# Altium schematic symbol library AltiumDesignerLibraries.SCHLIB: 396 symbols (part 1 of 3)
Pins are listed as number, name and electrical type; pins without a type are passive.

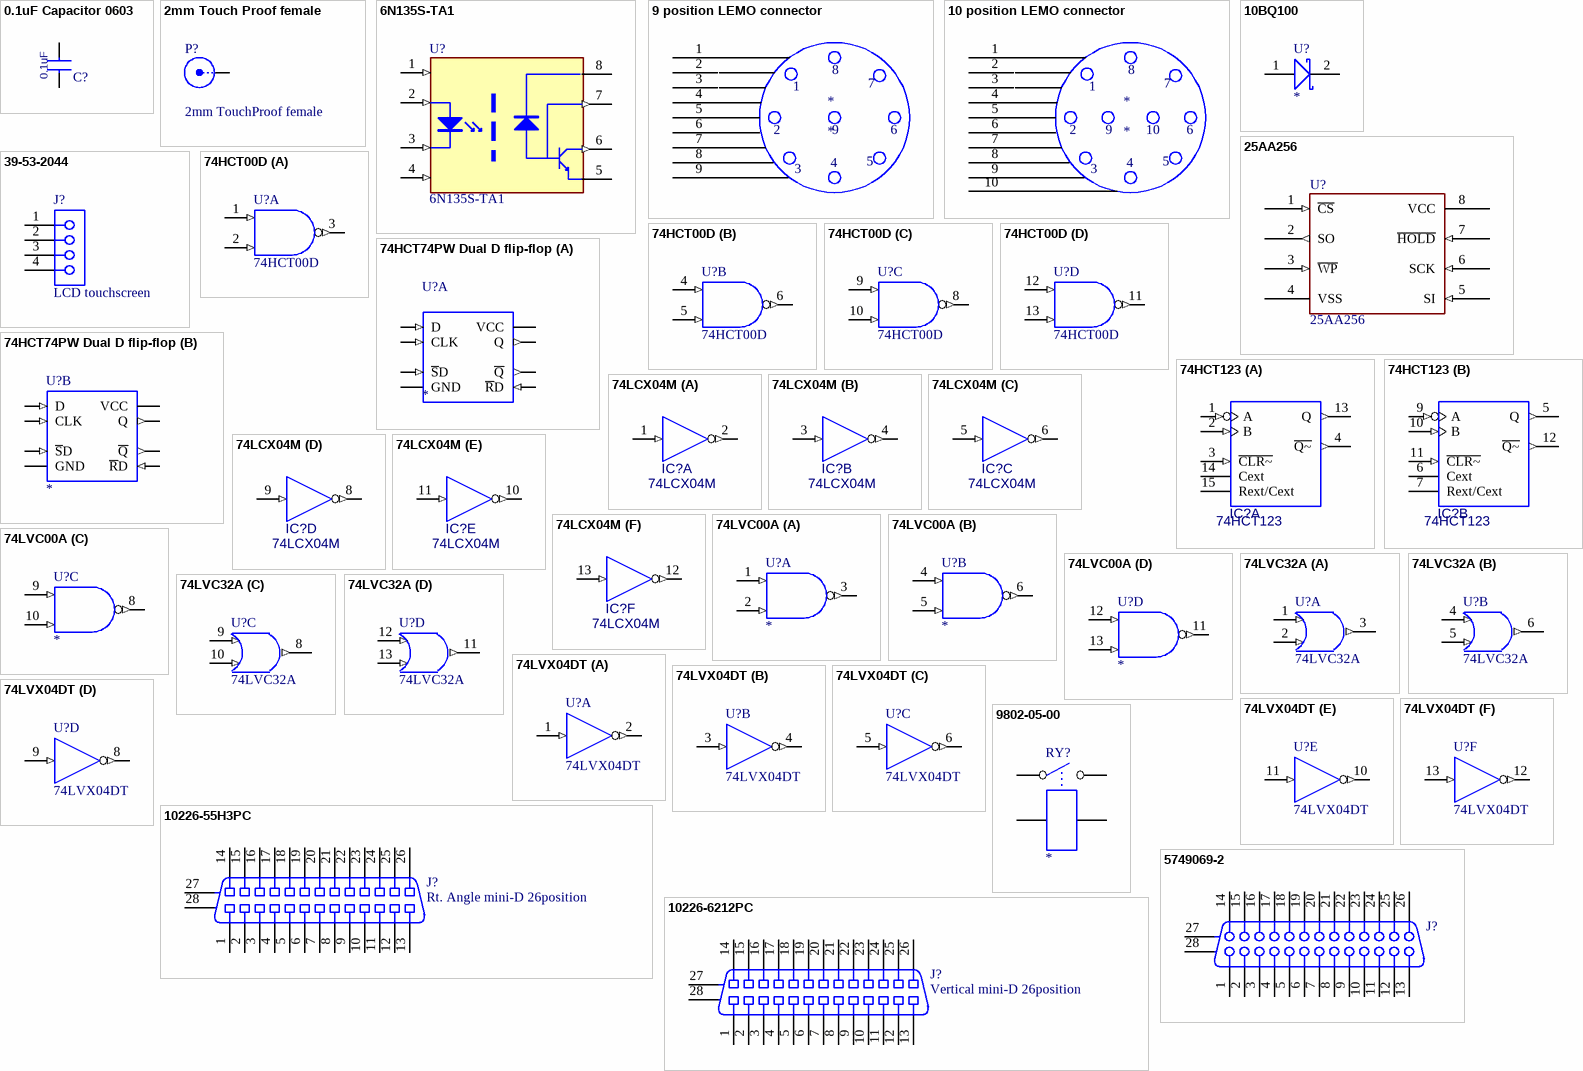
[diagram p0: symbols 0.1uF Capacitor 0603 to 5749069-2]

## 0.1uF Capacitor 0603
designator C?, comment value 0.1uF  (hidden comment: 0.1uf Capacitor 0603 package)
Cap 0603 package; Voltage: 6.3V
footprint CC0603
pins: 1, 2

## 2mm Touch Proof female
designator P?, comment 2mm TouchProof female
2mm Touch Proof connector female panel mount; Manufacturer#: 36586; Manufacturer: Plastics1
footprint 2mm Touch Proof conn
pins: 1 X

## 6N135S-TA1
designator U?
Optocoupler 5KVRMS isolation; Manufacturer: Lite-On Inc; Revision: 10/2/2004; Manufacturer#: 6N135S-TA1
footprint SO-G8/E3.9 (Small Outline; 8 Leads; Body Width 3.9 mm; Pitch 1.27 mm; PCB Creepage 4.4 mm)
pins: 1 ANODE 1 (in), 2 CATHODE 1 (in), 3 CATHODE 2 (in), 4 ANODE 2 (in), 5 GND (power), 6 Vo 1 (out), 7 Vo 2 (out), 8 VDD (power)

## 9 position LEMO connector
designator *
9 position LEMO connector; Manufacturer: Lemo
pins: 1, 2, 3, 4, 5, 6, 7, 8, 9

## 10 position LEMO connector
designator *
10 position LEMO connector; Manufacturer: Lemo
pins: 1, 2, 3, 4, 5, 6, 7, 8, 9, 10

## 10BQ100
designator U?
10BQ100 DIODE SCHOTTKY 100V 1A SMB; Manufacturer#: VS-10BQ100HM3/5BT; Manufacturer: Vishay
footprint DSO-C2/X2.3
pins: 1 A, 2 K

## 25AA256
designator U?
IC EEPROM 256KBIT 10MHZ 8TSSOP; Manufacturer: Microchip; Manufacturer#: 25AA256-I/ST
footprint TSSO3X6-G8/X.3 (TSSOP 8 pin wde body.)
pins: 1 ~{CS} (in), 2 SO (out), 3 ~{WP} (in), 4 VSS (power), 5 SI (in), 6 SCK (in), 7 ~{HOLD} (in), 8 VCC (power)

## 39-53-2044
designator J?, comment LCD touchscreen
Molex 1.25mm FFC Conn. 4pos. Rt. Angle thru-hole; Manufacturer#: 0039532044; Manufacturer: Molex
footprint 39-53-2004 (Molex 1.25mm FFC/FPC Connector 4pos. thru-hole)
pins: 1, 2, 3, 4

## 74HCT00D
designator U?
IC GATE NAND 4CH 2-INP 14-SOIC; Manufacturer#: SN74HCT00DR; Manufacturer: Texas Instruments
footprint SO-G14 (SOIC 14 pin 0.5mm pitch standard body width)
pins on every part: 7 GND (power) hidden, 14 VCC (power) hidden
part A pins: 1 A (in), 2 B (in), 3 Y (out)
part B pins: 4 A (in), 5 B (in), 6 Y (out)
part C pins: 8 Y (out), 9 A (in), 10 B (in)
part D pins: 11 Y (out), 12 A (in), 13 B (in)

## 74HCT74PW Dual D flip-flop
designator U?
IC D-TYPE POS TRG DUAL 14TSSOP; Manufacturer#: SN74HCT74PWR; Manufacturer: Texas Instruments
footprint SOT402-1
part A pins: 1 ~{R}D (in), 2 D (in), 3 CLK (in), 4 ~{S}D (in), 5 Q (out), 6 ~{Q} (out), 7 GND (power), 14 VCC (power)
part B pins: 7 GND (power), 8 ~{Q} (out), 9 Q (out), 10 ~{S}D (in), 11 CLK (in), 12 D (in), 13 ~{R}D (in), 14 VCC (power)

## 74HCT123
designator IC?
Dual Retriggerable Monostable Multivibrator; Manufacturer#: CD74HCT123M96; Manufacturer: Texas Instruments
footprint SO-G16/C5.2
pins on every part: 8 GND (power) hidden to GND, 16 VCC (power) hidden to +5V
part A pins: 1 A (in), 2 B (in), 3 ~{CLR~} (in), 4 ~{Q~} (out), 13 Q (out), 14 Cext, 15 Rext/Cext
part B pins: 5 Q (out), 6 Cext, 7 Rext/Cext, 9 A (in), 10 B (in), 11 ~{CLR~} (in), 12 ~{Q~} (out)

## 74LCX04M
designator IC?
IC INVERTER HEX 5VINPUT 14TSSOP; Manufacturer: Fairchild Semiconductor; Manufacturer#: 74LCX04MTCX
footprint SO-G14/G3
pins on every part: 7 GND (power) hidden to GND, 14 VCC (power) hidden to +3.3V
part A pins: 1 A (in), 2 Y (out)
part B pins: 3 A (in), 4 Y (out)
part C pins: 5 A (in), 6 Y (out)
part D pins: 8 Y (out), 9 A (in)
part E pins: 10 Y (out), 11 A (in)
part F pins: 12 Y (out), 13 A (in)

## 74LVC00A
designator U?
IC GATE NAND 4CH 2-INP 14-TSSOP; Manufacturer#: SN74LVC00APWR; Manufacturer: Texas Instruments
footprint SO-G14/G3.3
pins on every part: 7 GND (power) hidden, 14 VCC (power) hidden
part A pins: 1 A (in), 2 B (in), 3 Y (out)
part B pins: 4 A (in), 5 B (in), 6 Y (out)
part C pins: 8 Y (out), 9 A (in), 10 B (in)
part D pins: 11 Y (out), 12 A (in), 13 B (in)

## 74LVC32A
designator U?
IC GATE OR 4CH 2-INP 14-TSSOP; Manufacturer#: SN74LVC32APWR; Manufacturer: Texas Instruments
footprint SO-G14 (SOIC 14 pin 0.5mm pitch standard body width)
pins on every part: 7 GND (power) hidden, 14 VCC (power) hidden
part A pins: 1 1A (in), 2 1B (in), 3 1Y (out)
part B pins: 4 2A (in), 5 2B (in), 6 2Y (out)
part C pins: 7 GND (power) hidden to AGND, 8 3Y (out), 9 3A (in), 10 3B (in), 14 VCC (power) hidden to +5V
part D pins: 11 4Y (out), 12 4A (in), 13 4B (in)

## 74LVX04DT
designator U?
IC INVERTER HEX ADV HS 14-TSSOP; Manufacturer#: MC74LVX04DTR2G-ND; Manufacturer: ON semiconductor
footprint 948G-01 (Shrink Small Outline; 14 Leads; Body Width 4.4 mm; Pitch 0.65 mm)
pins on every part: 7 GND (power) hidden to GND, 14 VDD (power) hidden to VDD
part A pins: 1 IN (in), 2 ~{OUT} (out)
part B pins: 3 IN (in), 4 ~{OUT} (out)
part C pins: 5 IN (in), 6 ~{OUT} (out)
part D pins: 8 ~{OUT} (out), 9 IN (in)
part E pins: 10 ~{OUT} (out), 11 IN (in)
part F pins: 12 ~{OUT} (out), 13 IN (in)

## 9802-05-00
designator RY?
RELAY RF SPST 250MA 5V; Manufacturer: Coto Technology; Manufacturer#: 9802-05-00
footprint SO-G8/X9.5
pins: 1 C1, 2 C2, 3 SHIELD (power) hidden, 4 SHIELD (power) hidden, 5 S1, 6 S2, 7 SHIELD (power) hidden, 8 SHIELD (power) hidden

## 10226-55H3PC
designator J?, comment Rt. Angle mini-D 26position
MDR Receptacle Assembly, Female 26 Pos.,Shielded, Rt. Angle,  Action Pin for .062 to .093 Thick Bd, 3M; Manufacturer#: 10226-55H3PC; Manufacturer: 3M
footprint 10226-55H3PC
signal-integrity model D Subminiature
pins: 1, 2, 3, 4, 5, 6, 7, 8, 9, 10, 11, 12, 13, 14, 15, 16, 17, 18, 19, 20, 21, 22, 23, 24, 25, 26, 27 MH1, 28 MH2

## 10226-6212PC
designator J?, comment Vertical mini-D 26position
MDR 26pos. Receptacle Assembly, Shielded, Vertical,  Action Pin for .062 to .093 Thick Bd; Manufacturer#: 10226-6212PC; Manufacturer: 3M; Checkedby: J. Moyer
footprint 10226-6212PC (MDR 26pos. vertical thru hole)
signal-integrity model D Subminiature
pins: 1, 2, 3, 4, 5, 6, 7, 8, 9, 10, 11, 12, 13, 14, 15, 16, 17, 18, 19, 20, 21, 22, 23, 24, 25, 26, 27 MH1, 28 MH2

## 5749069-2
designator J?
Receptacle Assembly, Shielded, Vertical, Railed, Action Pin for .062 to .093 Thick Bd, AMPLIMITE; Manufacturer#: 5749069-2; Manufacturer: TE connectivity; Note: Series III
footprint 5749069-2 (Vertical mini-D 26 position)
signal-integrity model D Subminiature
pins: 1, 2, 3, 4, 5, 6, 7, 8, 9, 10, 11, 12, 13, 14, 15, 16, 17, 18, 19, 20, 21, 22, 23, 24, 25, 26, 27 MH1, 28 MH2

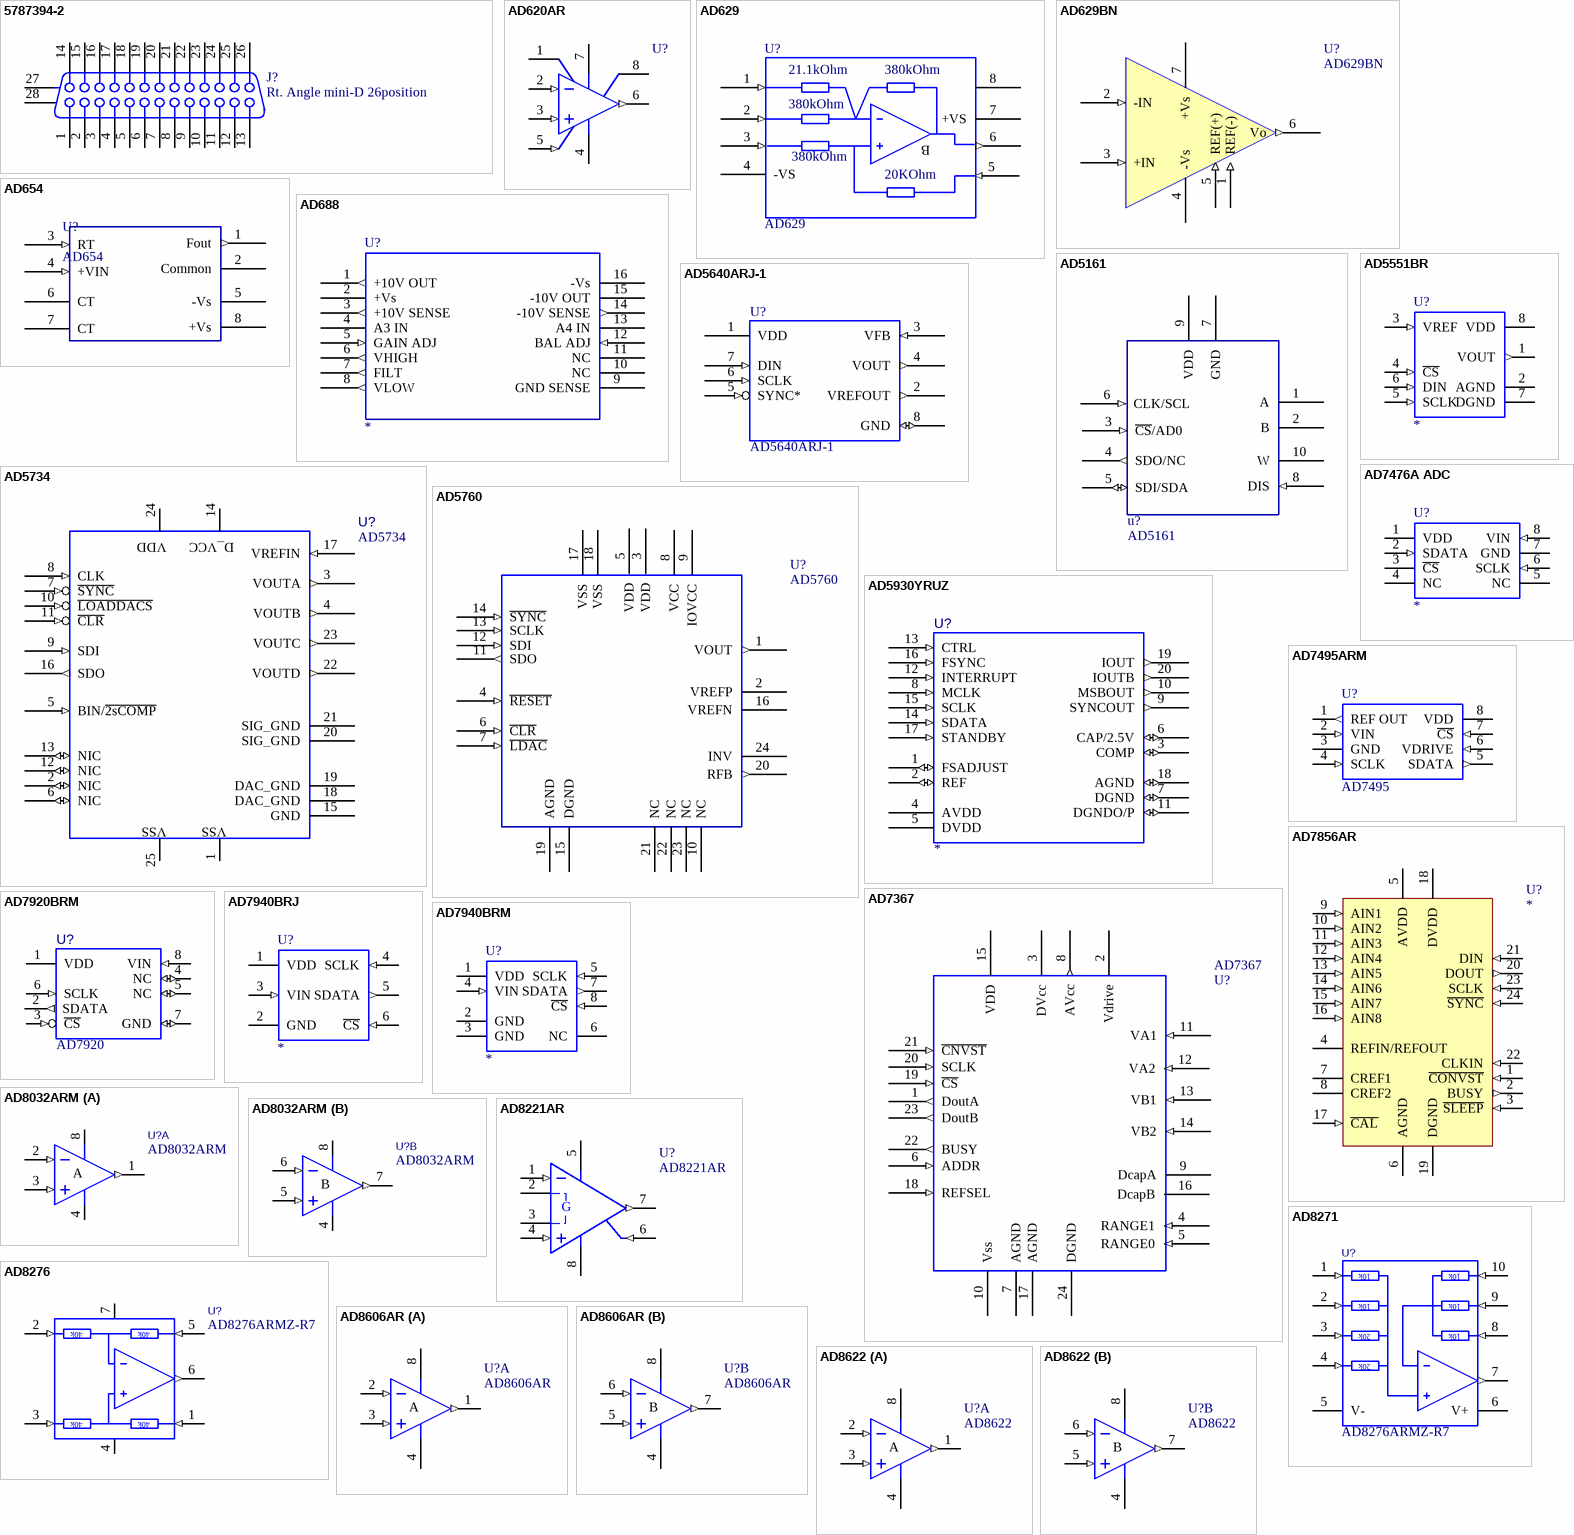
[diagram p1: symbols 5787394-2 to AD8622]

## 5787394-2
designator J?, comment Rt. Angle mini-D 26position
Receptacle Assembly, Femaile 26 Pos.,Shielded, Rt. Angle,  Action Pin for .062 to .093 Thick Bd,; Manufacturer#: 5749069-2; Manufacturer: TE connectivity
footprint 5787394-2 (Female 26 pos. mini-D receptacle)
signal-integrity model D Subminiature
pins: 1, 2, 3, 4, 5, 6, 7, 8, 9, 10, 11, 12, 13, 14, 15, 16, 17, 18, 19, 20, 21, 22, 23, 24, 25, 26, 27 MH1, 28 MH2

## AD620AR
designator U?
Low-Cost, Low-Power Instrumentation Amplifier; Manufacturer#: AD620ARZ; Manufacturer: Analog Devices
footprint R-8D_N (SOIC, 8-Leads, Body 4.9x3.9mm, Pitch 1.27mm, IPC Medium Density)
footprint R-8D_L (SOIC, 8-Leads, Body 4.9x3.9mm, Pitch 1.27mm, IPC High Density)
footprint R-8D_M (SOIC, 8-Leads, Body 4.9x3.9mm, Pitch 1.27mm, IPC Low Density)
3D model R-8D (8-Pin Narrow Body Small Outline Integrated Circuit 1.27 mm Pitch)
simulation model AD620A (SUBCKT)
pins: 1 RG, 2 -IN (in), 3 +IN (in), 4 V- (power), 5 REF (in), 6 OUT (out), 7 V+ (power), 8 RG

## AD629
designator U?
High Common-mode voltage difference amplifier; Manufacturer#: AD629ARZ-R7; Manufacturer: Analog Devices
pins: 1 REF- (in), 2 IN- (in), 3 IN+ (in), 4 -VS (power), 5 VOUTB (in), 6 VOUTA (out), 7 +VS (power), 8 NC
text: 21.1kOhm; 380kOhm; B; 20KOhm

## AD629BN
designator U?
High CM Diff. Amp; Manufacturer#: AD629BNZ; Manufacturer: Analog Devices
footprint DIP8FHC
footprint SO-G8 (SOIC 8 pin 0.5mm pitch)
pins: 1 REF(-) (in), 2 -IN (in), 3 +IN (in), 4 -Vs (power), 5 REF(+) (in), 6 Vo (out), 7 +Vs (power), 8 NC hidden

## AD654
designator U?
AD654 V-F converter; Manufacturer#: AD654JRZ; Manufacturer: Analog Devices
pins: 1 Fout (out), 2 Common (power), 3 RT (in), 4 +VIN (in), 5 -Vs (power), 6 CT, 7 CT, 8 +Vs (power)

## AD688
designator U?
+/-10V precision voltage reference; Manufacturer#: AD688ARWZ; Manufacturer: Analog Devices
pins: 1 +10V OUT  (out), 2 +Vs (power), 3 +10V SENSE (out), 4 A3 IN (power), 5 GAIN ADJ (in), 6 VHIGH (out), 7 FILT (out), 8 VLOW (out), 9 GND SENSE (power), 10 NC, 11 NC, 12 BAL ADJ (in), 13 A4 IN (power), 14 -10V SENSE (out), 15 -10V OUT (power), 16 -Vs (power)

## AD5161
designator u?
256 position SPI/I2C digital potentiometer; Manufacturer#: AD5161BRMZ100; Manufacturer: Analog Devices
pins: 1 A, 2 B, 3 ~{CS}/AD0 (in), 4 SDO/NC (out), 5 SDI/SDA (io), 6 CLK/SCL (in), 7 GND (power), 8 DIS (in), 9 VDD (power), 10 W

## AD5551BR
designator U?
14-Bit DAC; Manufacturer#: AD5551BRZ; Manufacturer: Analog Devices
footprint SO-G8
pins: 1 VOUT (out), 2 AGND (power), 3 VREF (in), 4 ~{CS} (in), 5 SCLK (in), 6 DIN (in), 7 DGND (power), 8 VDD (power)

## AD5640ARJ-1
designator U?
14-Bit DAC on-board reference output buffer; Manufacturer#: AD5640ARJZ-2500RL7TR-ND; Manufacturer: Analog Devices
footprint SOT23-8
pins: 1 VDD (power), 2 VREFOUT (out), 3 VFB (in), 4 VOUT (out), 5 SYNC* (in), 6 SCLK (in), 7 DIN (in), 8 GND (io)
2 alternate drawings of the same symbol

## AD5734
designator U?
Dual supply 14bit Quad DAC; Manufacturer#: Choose appropriately; Manufacturer: Analog Devices
footprint TSSO8X6-G24/D7.9
pins: 1 VSS (power), 2 NIC (io), 3 VOUTA (out), 4 VOUTB (out), 5 BIN/~{2sCOMP} (in), 6 NIC (io), 7 ~{SYNC} (in), 8 CLK (in), 9 SDI (in), 10 ~{LOADDACS} (in), 11 ~{CLR} (in), 12 NIC (io), 13 NIC (io), 14 D_VCC (power), 15 GND, 16 SDO (out), 17 VREFIN (in), 18 DAC_GND, 19 DAC_GND, 20 SIG_GND, 21 SIG_GND, 22 VOUTD (out), 23 VOUTC (out), 24 VDD (power), 25 VSS (power)

## AD5760
designator U?
16 bit high-voltage ultra-precise DAC; Manufacturer: Analog Devices; Manufacturer#: Choose appropriately
footprint TSSO6x6-G20/P.65
pins: 1 VOUT (out), 2 VREFP (power) "positive VREF", 3 VDD (power) "Positive Analog Supply", 4 ~{RESET} (in) "Active low reset", 5 VDD (power), 6 ~{CLR} (in), 7 ~{LDAC} (in), 8 VCC (power), 9 IOVCC (power), 10 NC, 11 SDO (out), 12 SDI (in), 13 SCLK (in), 14 ~{SYNC} (in), 15 DGND (power), 16 VREFN (power), 17 VSS (power), 18 VSS (power), 19 AGND (power), 20 RFB (out) "feedback for ext. amp", 21 NC, 22 NC, 23 NC, 24 INV

## AD5930YRUZ
designator U?
Burst Signal Generator; Manufacturer#: AD5930YRUZ; Manufacturer: Analog Devices
footprint TSSO6x6-G20/P.65
pins: 1 FSADJUST (io), 2 REF (io), 3 COMP (io), 4 AVDD (power), 5 DVDD (power), 6 CAP/2.5V (io), 7 DGND (io), 8 MCLK (in), 9 SYNCOUT (out), 10 MSBOUT (out), 11 DGNDO/P (io), 12 INTERRUPT (in), 13 CTRL (in), 14 SDATA (in), 15 SCLK (in), 16 FSYNC (in), 17 STANDBY (in), 18 AGND (io), 19 IOUT (out), 20 IOUTB (out)

## AD7367
designator AD7367, comment U?
14 bit, 2-channel ADC; Manufacturer#: AD7367BRUZ-ND; Manufacturer: Analog Devices
pins: 1 DoutA (out), 2 Vdrive (power), 3 DVcc (power), 4 RANGE1 (in), 5 RANGE0 (in), 6 ADDR (in), 7 AGND (power), 8 AVcc (out), 9 DcapA, 10 Vss (power), 11 VA1 (in), 12 VA2 (in), 13 VB1 (in), 14 VB2 (in), 15 VDD (power), 16 DcapB, 17 AGND (power), 18 REFSEL (in), 19 ~{CS} (in), 20 SCLK (in), 21 ~{CNVST} (in), 22 BUSY (out), 23 DoutB (out), 24 DGND (power)

## AD7476A ADC
designator U?
12bit 1MSPS 8 Pin MSOP; AD7476ABRMZ; Manufacturer#: AD7476ARTZ-500RL7; Manufacturer: Analog Devices
footprint RM-08 (Shrink Small Outline; 8 Leads; Body Width 3 mm; Pitch 0.65 mm)
pins: 1 VDD (power), 2 SDATA (in), 3 ~{CS} (power), 4 NC, 5 NC, 6 SCLK (in), 7 GND (power), 8 VIN (in)

## AD7495ARM
designator U?, comment AD7495
12bit 1MSPS 8MSOP w/REF; AD7495BRMZ; Manufacturer: Analog Devices
footprint TSSO3X5-G8/D3.1 (TSSOP 8 Pin narrow body)
pins: 1 REF OUT (out), 2 VIN (in), 3 GND (power), 4 SCLK (in), 5 SDATA (out), 6 VDRIVE (in), 7 ~{CS} (in), 8 VDD (power)

## AD7856AR
designator U?
5 V Single Supply, 8-Channel, 14-Bit 285 kSPS Sampling ADC; Manufacturer: Analog Devices
footprint SO-G24
pins: 1 ~{CONVST} (in), 2 BUSY (out), 3 ~{SLEEP} (in), 4 REFIN/REFOUT, 5 AVDD (power), 6 AGND (power), 7 CREF1, 8 CREF2, 9 AIN1 (in), 10 AIN2 (in), 11 AIN3 (in), 12 AIN4 (in), 13 AIN5 (in), 14 AIN6 (in), 15 AIN7 (in), 16 AIN8 (in), 17 ~{CAL} (in), 18 DVDD (power), 19 DGND (power), 20 DOUT (out), 21 DIN (in), 22 CLKIN (in), 23 SCLK (in), 24 ~{SYNC} (in)

## AD7920BRM
designator U?, comment AD7920
12-Bit ADC SPI interface; Manufacturer: Analog Devices
footprint TSSO3X5-G8/D3.1
footprint TSSO3X5-G8/D3.1
pins: 1 VDD (power), 2 SDATA (out), 3 ~{CS} (in), 4 NC (io), 5 NC (io), 6 SCLK (in), 7 GND (io), 8 VIN (in)

## AD7940BRJ
designator U?
14 bit ADC with SPI interface; Manufacturer: Analog Devices
footprint SO-G6/P.95
pins: 1 VDD (power), 2 GND (power), 3 VIN (in), 4 SCLK (in), 5 SDATA (out), 6 ~{CS} (in)

## AD7940BRM
designator U?
14 bit ADC with SPI interface; Manufacturer: Analog Devices
footprint TSSO3X5-G8/D3.1
pins: 1 VDD (power), 2 GND (power), 3 GND (power), 4 VIN (in), 5 SCLK (in), 6 NC, 7 SDATA (out), 8 ~{CS} (in)

## AD8032ARM
designator U?
AD8032 General Purpose Rail-to-Rail 80MHz bi-polar; Manufacturer: Analog Devices
footprint TSSO3X6-G8/X.3 (TSSOP 8 pin wde body.)
part A pins: 1 OUT1 (out), 2 -IN1 (in), 3 +IN1 (in), 4 -VS (power), 8 +VS (power)
part B pins: 4 -VS (power), 5 +IN2 (in), 6 -IN2 (in), 7 OUT2 (out), 8 +VS (power)
part A text: A
part B text: B

## AD8221AR
designator U?
Insturmentation Amplifier; Manufacturer: Analog Devices
footprint SO-G8
pins: 1 -IN (in), 2 RG, 3 RG, 4 +IN (in), 5 V- (power), 6 REF (in), 7 OUT (out), 8 V+ (power)
text: G

## AD8271
designator U?, comment AD8276ARMZ-R7
AD8271 Programmable Gain Difference Amplifer; Manufacturer: Analog Devices
footprint TSSO3x5-G10
pins: 1 P1 (in), 2 P2 (in), 3 P3 (in), 4 P4 (in), 5 V- (power), 6 V+ (power), 7 OUT (out), 8 N1 (in), 9 N2 (in), 10 N3 (in)
text: 10k; 20k

## AD8276
designator U?, comment AD8276ARMZ-R7
AD8276 Unity Gain Difference Amplifer; Manufacturer: Analog Devices
footprint TSSO3X5-G8/D3.1
footprint SO-G8/E3.9 (SOIC 8 pin 0.5mm pitch wide body 6mm)
pins: 1 REF (in), 2 -INA (in), 3 +INA (in), 4 V- (power), 5 SENSE (in), 6 OUT (out), 7 V+ (power), 8 NC (in) hidden
text: 40k

## AD8606AR
designator U?
Dual Rail-to-Rail General Purpose; Manufacturer: Analog Devices; Revision: 17-Jul-2002: Re-released for DXP Platform.
footprint SO-G8
pins on every part: 4 V- (power), 8 V+ (power)
part A pins: 1 OUT (out), 2 IN- (in), 3 IN+ (in)
part B pins: 5 IN+ (in), 6 IN- (in), 7 OUT (out)
part A text: A
part B text: B

## AD8622
designator U?
Low Cost, 540kHz Voltage Feedback Amplifier; Manufacturer: Analog Devices
footprint RM-8 (Footprint not found)
3D model RM-08 (PCB3D Model)
pins on every part: 4 V- (power), 8 V+ (power)
part A pins: 1 OUT (out), 2 IN- (in), 3 IN+ (in)
part B pins: 5 IN+ (in), 6 IN- (in), 7 OUT (out)
part A text: A
part B text: B

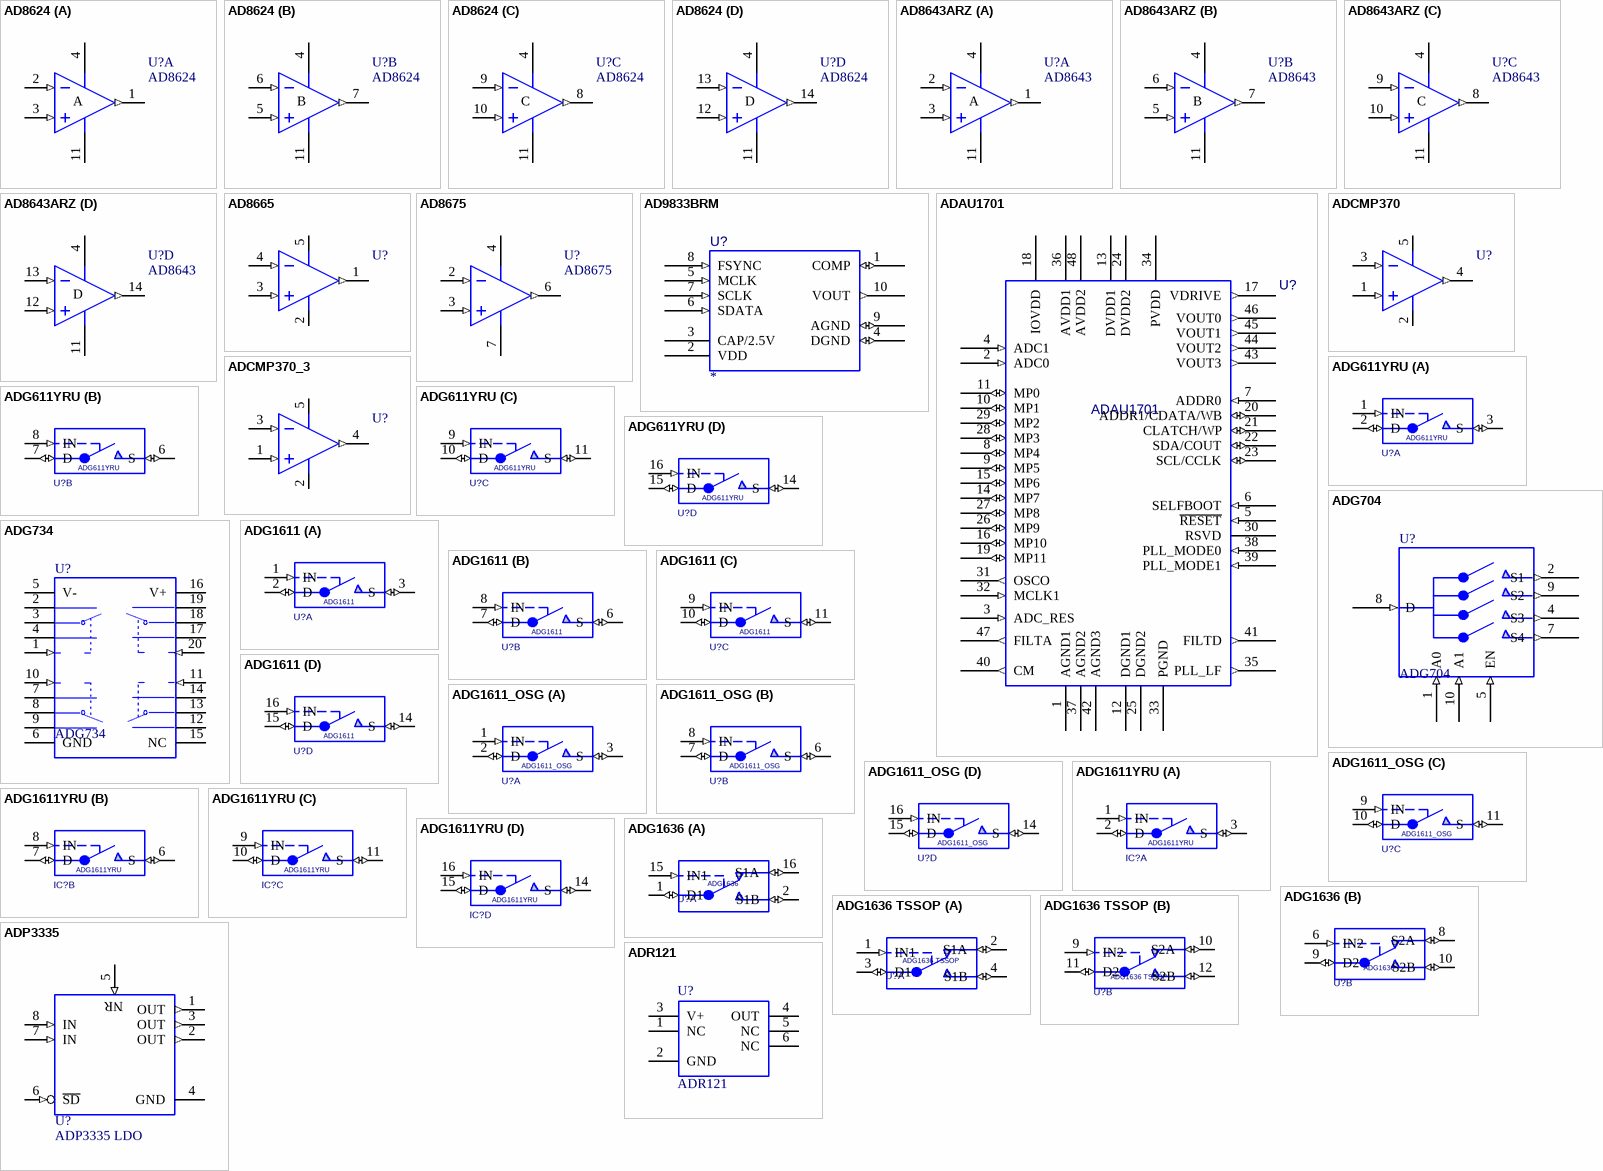
[diagram p2: symbols AD8624 to ADR121]

## AD8624
designator U?
Low Cost, Quad, 540kHz Voltage Feedback Amplifier; Manufacturer: Analog Devices
footprint TSOP65P640-14AM (TSOP, 14-Leads, Body 5x4.4mm, Pitch 0.65mm, IPC Low Density)
pins on every part: 4 V+ (power), 11 V- (power)
part A pins: 1 OUT (out), 2 IN- (in), 3 IN+ (in)
part B pins: 5 IN+ (in), 6 IN- (in), 7 OUT (out)
part C pins: 8 OUT (out), 9 IN- (in), 10 IN+ (in)
part D pins: 12 IN+ (in), 13 IN- (in), 14 OUT (out)
part A text: A
part B text: B
part C text: C
part D text: D

## AD8643ARZ
designator U?, comment AD8643
Precision Rail-to-Rail Low Iq Op-Ampl; Manufacturer: Analog Devices
footprint SO-G14
footprint SO-14_L (SOIC, 14-Leads, Body 8.7x3.9mm, Pitch 1.27mm, IPC High Density)
footprint SO-14_M (SOIC, 14-Leads, Body 8.7x3.9mm, Pitch 1.27mm, IPC Low Density)
3D model SO-14 (14-Pin Small Outline Integrated Circuit 1.27 mm Pitch)
simulation model OP484F (SUBCKT)
pins on every part: 4 V+ (power), 11 V- (power)
part A pins: 1 OUT (out), 2 IN- (in), 3 IN+ (in)
part B pins: 5 IN+ (in), 6 IN- (in), 7 OUT (out)
part C pins: 8 OUT (out), 9 IN- (in), 10 IN+ (in)
part D pins: 12 IN+ (in), 13 IN- (in), 14 OUT (out)
part A text: A
part B text: B
part C text: C
part D text: D

## AD8665
designator U?  (value not drawn)
AD8665 general purpose opamp 4MHz rail-to-rail SOT-23-5; Manufacturer: Analog Devices
footprint SO-G5/P.95
pins: 1 OUT (out), 2 V- (power), 3 IN+ (in), 4 IN- (in), 5 V+ (power)

## AD8675
designator U?
36V precision rail-rail output op-amp; Manufacturer: Analog Devices
pins: 2 IN- (in), 3 IN+ (in), 4 V+ (power), 6 OUT (out), 7 V- (power)

## AD9833BRM
designator U?
DDS waveform generator; Manufacturer: Analog Devices
footprint TSSO3x5-G10
pins: 1 COMP (io), 2 VDD (power), 3 CAP/2.5V (power), 4 DGND (io), 5 MCLK (in), 6 SDATA (in), 7 SCLK (in), 8 FSYNC (in), 9 AGND (io), 10 VOUT (out)

## ADAU1701
designator U?
Audio Codec with built in DSP; Manufacturer: Analog Devices; Description: AC’97 SoundMAX ® Codec
footprint F-QFP7X7-G48/N
pins: 1 AGND1 (power), 2 ADC0 (in), 3 ADC_RES (in), 4 ADC1 (in), 5 ~{RESET} (in), 6 SELFBOOT (in), 7 ADDR0 (in), 8 MP4 (io), 9 MP5 (io), 10 MP1 (io), 11 MP0 (io), 12 DGND1 (power), 13 DVDD1 (power), 14 MP7 (io), 15 MP6 (io), 16 MP10 (io), 17 VDRIVE (out), 18 IOVDD (power), 19 MP11 (io), 20 ADDR1/CDATA/WB (io), 21 CLATCH/WP (io), 22 SDA/COUT (io), 23 SCL/CCLK (io), 24 DVDD2 (power), 25 DGND2 (power), 26 MP9 (io), 27 MP8 (io), 28 MP3 (io), 29 MP2 (io), 30 RSVD, 31 OSCO (out), 32 MCLK1 (in), 33 PGND (power), 34 PVDD (power), 35 PLL_LF (out), 36 AVDD1 (power), 37 AGND2 (power), 38 PLL_MODE0 (in), 39 PLL_MODE1 (in), 40 CM (out), 41 FILTD (out), 42 AGND3 (power), 43 VOUT3 (out), 44 VOUT2 (out), 45 VOUT1 (out), 46 VOUT0 (out), 47 FILTA (out), 48 AVDD2 (power)

## ADCMP370
designator U?  (value not drawn)
ADCMP370 Comparator; Manufacturer: Analog Devices
footprint SC70/KS-5
pins: 1 IN+ (in), 2 GND (power), 3 IN- (in), 4 OUT (out), 5 Vcc (power)

## ADCMP370_3
designator U?, comment ADCMP370  (value not drawn)
ADCMP370 Comparator; Manufacturer: Analog Devices
footprint SC70/KS-5
pins: 1 IN+ (in), 2 GND (power), 3 IN- (in), 4 OUT (out), 5 Vcc (power)

## ADG611YRU
designator U?
Quad Bilateral Switch For Transmission or Multiplexing of Analog or Digital Signals; Manufacturer: Analog Devices; Value: ADG611YRU
footprint TSSO5X6-G16
pins on every part: 4 VSS (power) hidden to A-5V, 5 GND (power) hidden to GND, 12 NC hidden, 13 VDD (power) hidden to A+5V
part A pins: 1 IN (in), 2 D (io), 3 S (io)
part B pins: 6 S (io), 7 D (io), 8 IN (in)
part C pins: 9 IN (in), 10 D (io), 11 S (io)
part D pins: 14 S (io), 15 D (io), 16 IN (in)

## ADG704
designator U?
Low Voltage 4 Ohm, 4-Channel Multiplexer; Manufacturer: Analog Devices
footprint MSOP-10 (10-lead Mini Small Outline Package [MSOP])
pins: 1 A0 (in), 2 S1 (out), 3 GND hidden to CPM_GND, 4 S3 (out), 5 EN (in), 6 VDD (power) hidden to CPM_5V, 7 S4 (out), 8 D (in), 9 S2 (out), 10 A1 (in)

## ADG734
designator U?
2.5ohm, Quad, SPDT, CMOS Analog Switches; Manufacturer: Analog Devices; Revision: 17-Jul-2002: Re-released for DXP Platform.
footprint TSSO6x6-G20/P.65
pins: 1 IN1 (in), 2 S1A, 3 D1, 4 S1B, 5 V- (power), 6 GND (power), 7 S2B, 8 D2, 9 S2A, 10 IN2 (in), 11 IN3 (in), 12 S3A, 13 D3, 14 S3B, 15 NC, 16 V+ (power), 17 S4B, 18 D4, 19 S4A, 20 IN4 (in)

## ADG1611
designator U?
ADG1611YRU Quad SPST digital switch; Manufacturer: Analog Devices; Value: ADG611YRU
footprint TSSO5X6-G16
pins on every part: 4 VSS (power) hidden to A-5V, 5 GND (power) hidden to GND, 12 NC hidden, 13 VDD (power) hidden to A+5V
part A pins: 1 IN (in), 2 D (io), 3 S (io)
part B pins: 6 S (io), 7 D (io), 8 IN (in)
part C pins: 9 IN (in), 10 D (io), 11 S (io)
part D pins: 14 S (io), 15 D (io), 16 IN (in)

## ADG1611_OSG
designator U?
ADG1611YRU Quad SPST digital switch; Manufacturer: Analog Devices; Value: ADG611YRU
footprint TSSO5X6-G16
pins on every part: 4 VSS (power) hidden to OSG_GND, 5 GND (power) hidden to OSG_GND, 12 NC hidden, 13 VDD (power) hidden to OSG_+5V
part A pins: 1 IN (in), 2 D (io), 3 S (io)
part B pins: 6 S (io), 7 D (io), 8 IN (in)
part C pins: 9 IN (in), 10 D (io), 11 S (io)
part D pins: 14 S (io), 15 D (io), 16 IN (in)

## ADG1611YRU
designator IC?
ADG1611YRU Quad Analog Switch; Manufacturer: Analog Devices; Description: Quad Bilateral Switch For Transmission or Multiplexing of Analog or Digital Signals; Value: ADG1611YRU
footprint TSSO5X6-G16
pins on every part: 4 VSS (power) hidden to A-5V, 5 GND (power) hidden to GND, 12 NC hidden, 13 VDD (power) hidden to A+5V
part A pins: 1 IN (in), 2 D (io), 3 S (io)
part B pins: 6 S (io), 7 D (io), 8 IN (in)
part C pins: 9 IN (in), 10 D (io), 11 S (io)
part D pins: 14 S (io), 15 D (io), 16 IN (in)

## ADG1636
designator U?
ADG1636 Dual SPDT switch; Manufacturer: Analog Devices; Value: ADG611YRU
footprint LFCSP_VQ 16 lead (16-Lead Lead Frame Chip Scale Package [LFCSP_VQ])
pins on every part: 5 NC (power) hidden, 7 NC hidden
part A pins: 1 D1 (io), 2 S1B (io), 15 IN1 (in), 16 S1A (io)
part B pins: 3 VSS hidden to AGND, 4 GND hidden to AGND, 6 IN2 (in), 8 S2A (io), 9 D2 (io), 10 S2B (io), 11 VDD hidden "+5V", 12 EN (in) hidden to +5V, 13 NC hidden, 14 NC hidden, 17 EPAD hidden to AGND

## ADG1636 TSSOP
designator U?
ADG1636 Dual SPDT switch; Manufacturer: Analog Devices; Value: ADG611YRU
footprint TSSOP-16 (TSOP, 16-Leads, Body 5x4.4mm, Pitch 0.65mm, IPC Low Density)
pins on every part: 5 VSS (power) hidden to AGND, 7 NC hidden
part A pins: 1 IN1 (in), 2 S1A (io), 3 D1 (io), 4 S1B (io)
part B pins: 6 GND hidden to AGND, 8 NC hidden, 9 IN2 (in), 10 S2A (io), 11 D2 (io), 12 S2B (io), 13 VDD (power) hidden to +5V, 14 EN (in) hidden to +5V, 15 NC hidden, 16 NC hidden

## ADP3335
designator U?, comment ADP3335 LDO
ADP3335 Pos. 5V LDO 500mA; Manufacturer: Analog Devices
pins: 1 OUT (out), 2 OUT (out), 3 OUT (out), 4 GND, 5 NR (in), 6 ~{SD} (in), 7 IN (in), 8 IN (in)

## ADR121
designator U?
2.5V voltage reference TSOT; Manufacturer: Analog Devices
footprint TSOT
pins: 1 NC, 2 GND (power), 3 V+ (power), 4 OUT (power), 5 NC, 6 NC

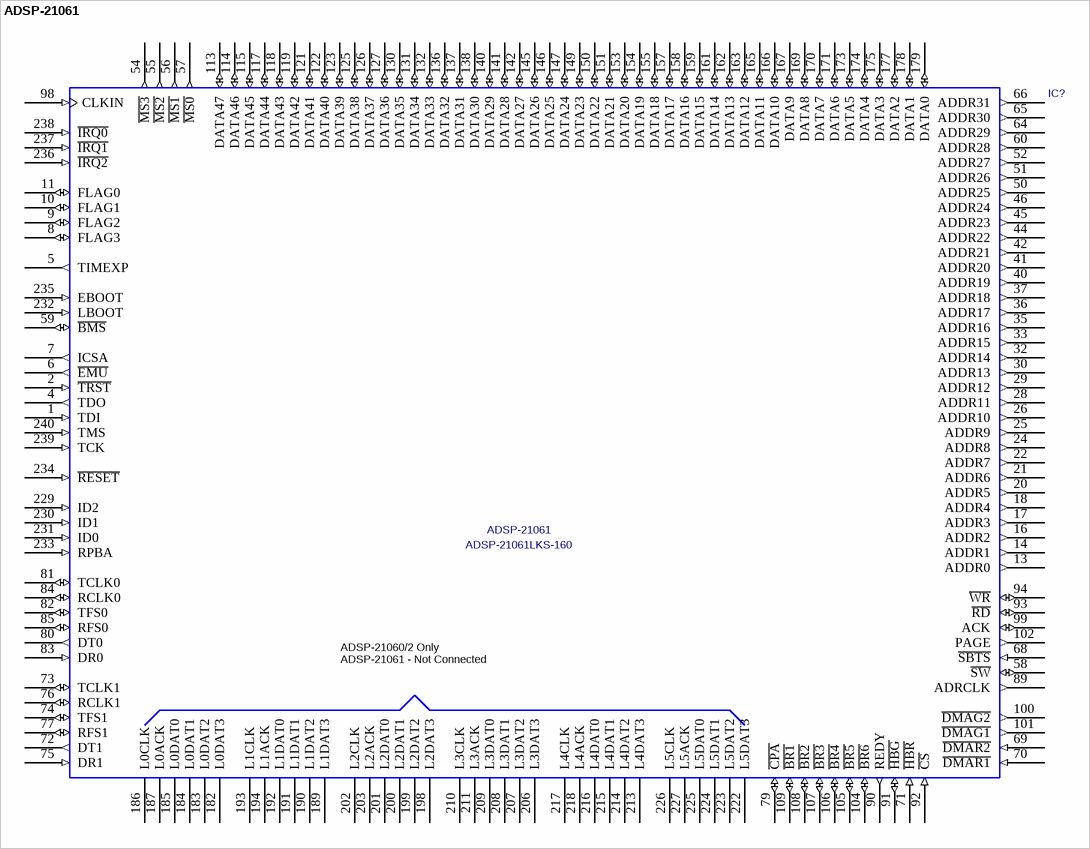
[diagram p3: symbol ADSP-21061]

## ADSP-21061
designator IC?  value ADSP-21061LKS-160
32-Bit DSP; Manufacturer: Analog Devices
footprint F-QFP32X32-G24B6
pins: 1 TDI (in), 2 ~{TRST} (in), 3 VDD (power) hidden to +3.3V, 4 TDO (out), 5 TIMEXP (out), 6 ~{EMU} (out), 7 ICSA (out), 8 FLAG3 (io), 9 FLAG2 (io), 10 FLAG1 (io), 11 FLAG0 (io), 12 GND (power) hidden to GND, 13 ADDR0 (out), 14 ADDR1 (out), 15 VDD (power) hidden to +3.3V, 16 ADDR2 (out), 17 ADDR3 (out), 18 ADDR4 (out), 19 GND (power) hidden to GND, 20 ADDR5 (out), 21 ADDR6 (out), 22 ADDR7 (out), 23 VDD (power) hidden to +3.3V, 24 ADDR8 (out), 25 ADDR9 (out), 26 ADDR10 (out), 27 GND (power) hidden to GND, 28 ADDR11 (out), 29 ADDR12 (out), 30 ADDR13 (out), 31 VDD (power) hidden to +3.3V, 32 ADDR14 (out), 33 ADDR15 (out), 34 GND (power) hidden to GND, 35 ADDR16 (out), 36 ADDR17 (out), 37 ADDR18 (out), 38 VDD (power) hidden to +3.3V, 39 VDD (power) hidden to +3.3V, 40 ADDR19 (out), 41 ADDR20 (out), 42 ADDR21 (out), 43 GND (power) hidden to GND, 44 ADDR22 (out), 45 ADDR23 (out), 46 ADDR24 (out), 47 VDD (power) hidden to +3.3V, 48 GND (power) hidden to GND, 49 VDD (power) hidden to +3.3V, 50 ADDR25 (out), 51 ADDR26 (out), 52 ADDR27 (out), 53 GND (power) hidden to GND, 54 ~{MS3} (out), 55 ~{MS2} (out), 56 ~{MS1} (out), 57 ~{MS0} (out), 58 ~{SW} (io), 59 ~{BMS} (io), 60 ADDR28 (out), 61 GND (power) hidden to GND, 62 VDD (power) hidden to +3.3V, 63 VDD (power) hidden to +3.3V, 64 ADDR29 (out), 65 ADDR30 (out), 66 ADDR31 (out), 67 GND (power) hidden to GND, 68 ~{SBTS} (in), 69 ~{DMAR2} (in), 70 ~{DMAR1} (in), 71 ~{HBR} (in), 72 DT1 (out), 73 TCLK1 (io), 74 TFS1 (io), 75 DR1 (in), 76 RCLK1 (io), 77 RFS1 (io), 78 GND (power) hidden to GND, 79 ~{CPA} (io), 80 DT0 (out), 81 TCLK0 (io), 82 TFS0 (io), 83 DR0 (in), 84 RCLK0 (io), 85 RFS0 (io), 86 VDD (power) hidden to +3.3V, 87 VDD (power) hidden to +3.3V, 88 GND (power) hidden to GND, 89 ADRCLK (out), 90 REDY (out), 91 ~{HBG} (io), 92 ~{CS} (in), 93 ~{RD} (io), 94 ~{WR} (io), 95 GND (power) hidden to GND, 96 VDD (power) hidden to +3.3V, 97 GND (power) hidden to GND, 98 CLKIN (in), 99 ACK (io), 100 ~{DMAG2} (out), 101 ~{DMAG1} (out), 102 PAGE (out), 103 VDD (power) hidden to +3.3V, 104 ~{BR6} (io), 105 ~{BR5} (io), 106 ~{BR4} (io), 107 ~{BR3} (io), 108 ~{BR2} (io), 109 ~{BR1} (io), 110 GND (power) hidden to GND, 111 VDD (power) hidden to +3.3V, 112 GND (power) hidden to GND, 113 DATA47 (io), 114 DATA46 (io), 115 DATA45 (io), 116 VDD (power) hidden to +3.3V, 117 DATA44 (io), 118 DATA43 (io), 119 DATA42 (io), 120 GND (power) hidden to GND, 121 DATA41 (io), 122 DATA40 (io), 123 DATA39 (io), 124 VDD (power) hidden to +3.3V, 125 DATA38 (io), 126 DATA37 (io), 127 DATA36 (io), 128 GND (power) hidden to GND, 129 NC hidden, 130 DATA35 (io), 131 DATA34 (io), 132 DATA33 (io), 133 VDD (power) hidden to +3.3V, 134 VDD (power) hidden to +3.3V, 135 GND (power) hidden to GND, 136 DATA32 (io), 137 DATA31 (io), 138 DATA30 (io), 139 GND (power) hidden to GND, 140 DATA29 (io), 141 DATA28 (io), 142 DATA27 (io), 143 VDD (power) hidden to +3.3V, 144 VDD (power) hidden to +3.3V, 145 DATA26 (io), 146 DATA25 (io), 147 DATA24 (io), 148 GND (power) hidden to GND, 149 DATA23 (io), 150 DATA22 (io), 151 DATA21 (io), 152 VDD (power) hidden to +3.3V, 153 DATA20 (io), 154 DATA19 (io), 155 DATA18 (io), 156 GND (power) hidden to GND, 157 DATA17 (io), 158 DATA16 (io), 159 DATA15 (io), 160 VDD (power) hidden to +3.3V, 161 DATA14 (io), 162 DATA13 (io), 163 DATA12 (io), 164 GND (power) hidden to GND, 165 DATA11 (io), 166 DATA10 (io), 167 DATA9 (io), 168 VDD (power) hidden to +3.3V, 169 DATA8 (io), 170 DATA7 (io), 171 DATA6 (io), 172 GND (power) hidden to GND, 173 DATA5 (io), 174 DATA4 (io), 175 DATA3 (io), 176 VDD (power) hidden to +3.3V, 177 DATA2 (io), 178 DATA1 (io), 179 DATA0 (io), 180 GND (power) hidden to GND, 181 GND (power) hidden to GND, 182 L0DAT3, 183 L0DAT2, 184 L0DAT1, 185 L0DAT0, 186 L0CLK, 187 L0ACK, 188 VDD (power) hidden to +3.3V, 189 L1DAT3, 190 L1DAT2, 191 L1DAT1, 192 L1DAT0, 193 L1CLK, 194 L1ACK, 195 GND (power) hidden to GND, 196 GND (power) hidden to GND, 197 VDD (power) hidden to +3.3V, 198 L2DAT3, 199 L2DAT2, 200 L2DAT1, 201 L2DAT0, 202 L2CLK, 203 L2ACK, 204 NC hidden, 205 VDD (power) hidden to +3.3V, 206 L3DAT3, 207 L3DAT2, 208 L3DAT1, 209 L3DAT0, 210 L3CLK, 211 L3ACK, 212 GND (power) hidden to GND, 213 L4DAT3, 214 L4DAT2, 215 L4DAT1, 216 L4DAT0, 217 L4CLK, 218 L4ACK, 219 VDD (power) hidden to +3.3V, 220 GND (power) hidden to GND, 221 VDD (power) hidden to +3.3V, 222 L5DAT3, 223 L5DAT2, 224 L5DAT1, 225 L5DAT0, 226 L5CLK, 227 L5ACK, 228 GND (power) hidden to GND, 229 ID2 (in), 230 ID1 (in), 231 ID0 (in), 232 LBOOT (in), 233 RPBA (in), 234 ~{RESET} (in), 235 EBOOT (in), 236 ~{IRQ2} (in), 237 ~{IRQ1} (in), 238 ~{IRQ0} (in), 239 TCK (in), 240 TMS (in)
text: ADSP-21060/2 Only / ADSP-21061 - Not Connected

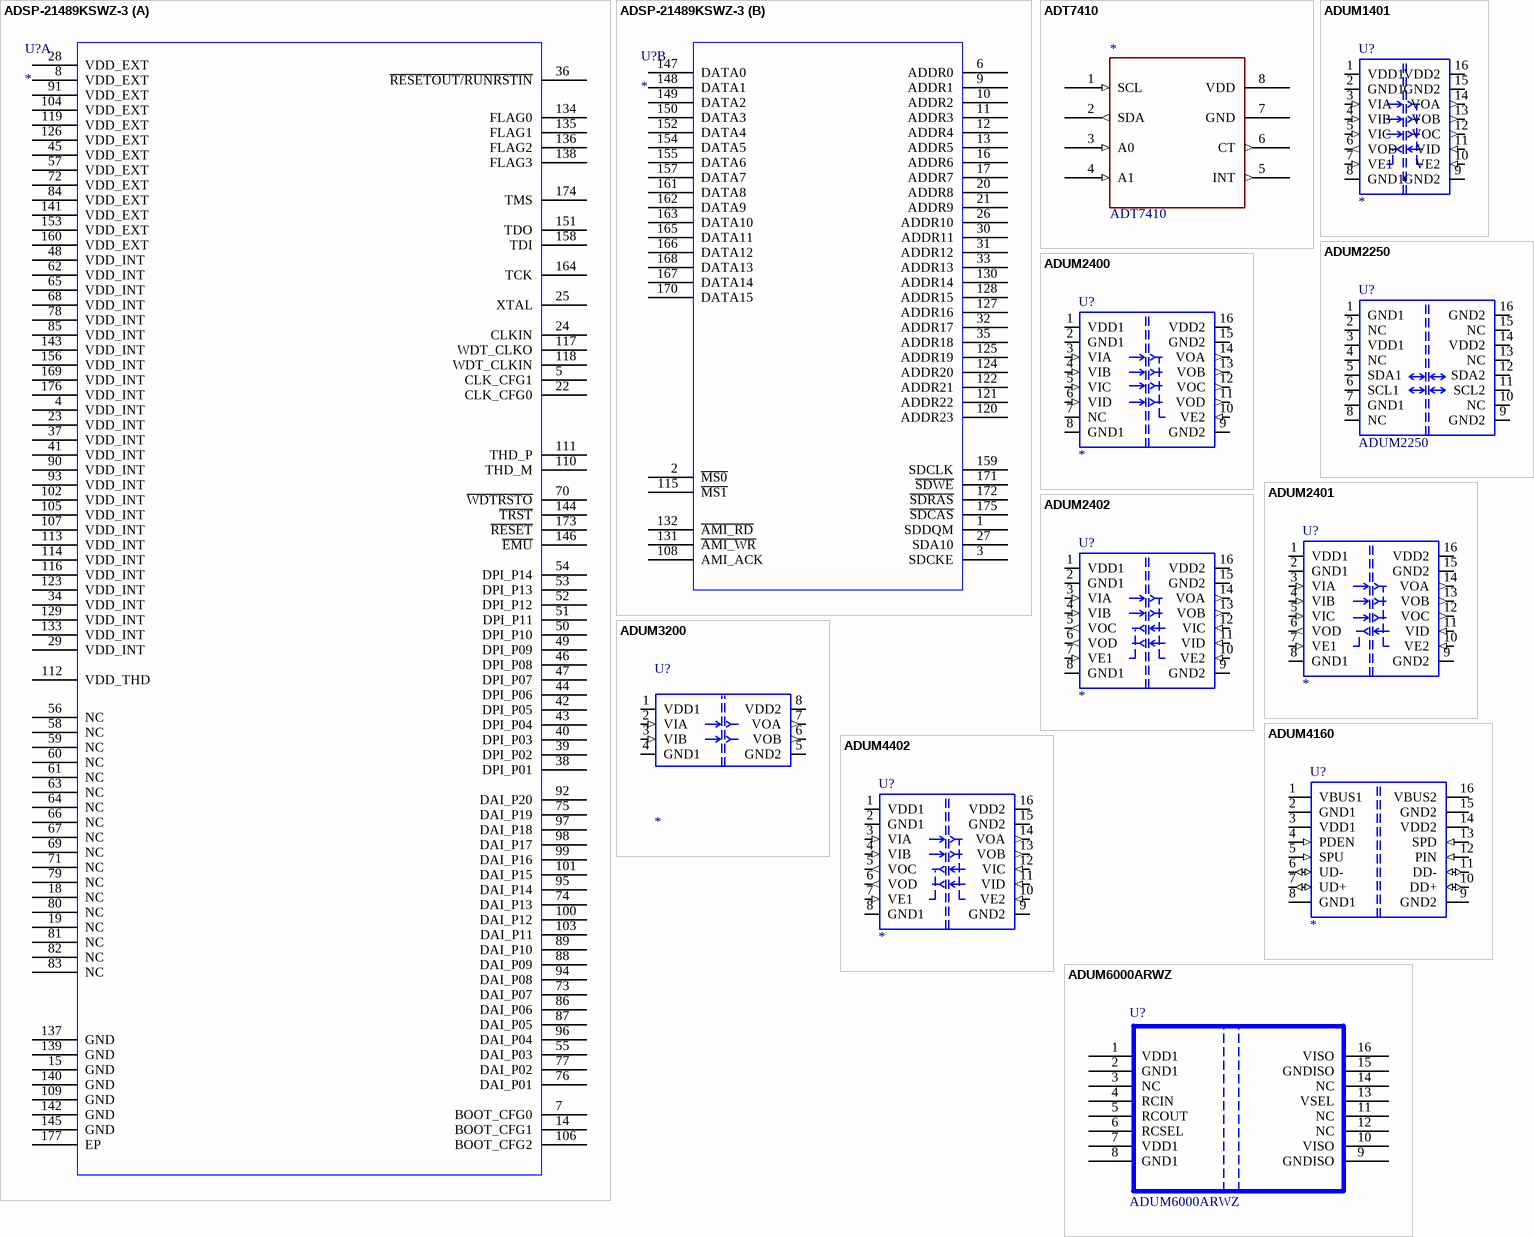
[diagram p4: symbols ADSP-21489KSWZ-3 to ADUM6000ARWZ]

## ADSP-21489KSWZ-3
designator U?
ADSP-21489; Manufacturer: Analog Devices; Value: Value
footprint SW_176_2
footprint SW_176_2
part A pins: 4 VDD_INT, 5 CLK_CFG1, 7 BOOT_CFG0, 8 VDD_EXT, 14 BOOT_CFG1, 15 GND, 18 NC, 19 NC, 22 CLK_CFG0, 23 VDD_INT, 24 CLKIN, 25 XTAL, 28 VDD_EXT, 29 VDD_INT, 34 VDD_INT, 36 ~{RESETOUT/RUNRSTIN}, 37 VDD_INT, 38 DPI_P01, 39 DPI_P02, 40 DPI_P03, 41 VDD_INT, 42 DPI_P05, 43 DPI_P04, 44 DPI_P06, 45 VDD_EXT, 46 DPI_P08, 47 DPI_P07, 48 VDD_INT, 49 DPI_P09, 50 DPI_P10, 51 DPI_P11, 52 DPI_P12, 53 DPI_P13, 54 DPI_P14, 55 DAI_P03, 56 NC, 57 VDD_EXT, 58 NC, 59 NC, 60 NC, 61 NC, 62 VDD_INT, 63 NC, 64 NC, 65 VDD_INT, 66 NC, 67 NC, 68 VDD_INT, 69 NC, 70 ~{WDTRSTO}, 71 NC, 72 VDD_EXT, 73 DAI_P07, 74 DAI_P13, 75 DAI_P19, 76 DAI_P01, 77 DAI_P02, 78 VDD_INT, 79 NC, 80 NC, 81 NC, 82 NC, 83 NC, 84 VDD_EXT, 85 VDD_INT, 86 DAI_P06, 87 DAI_P05, 88 DAI_P09, 89 DAI_P10, 90 VDD_INT, 91 VDD_EXT, 92 DAI_P20, 93 VDD_INT, 94 DAI_P08, 95 DAI_P14, 96 DAI_P04, 97 DAI_P18, 98 DAI_P17, 99 DAI_P16, 100 DAI_P12, 101 DAI_P15, 102 VDD_INT, 103 DAI_P11, 104 VDD_EXT, 105 VDD_INT, 106 BOOT_CFG2, 107 VDD_INT, 109 GND, 110 THD_M, 111 THD_P, 112 VDD_THD, 113 VDD_INT, 114 VDD_INT, 116 VDD_INT, 117 WDT_CLKO, 118 WDT_CLKIN, 119 VDD_EXT, 123 VDD_INT, 126 VDD_EXT, 129 VDD_INT, 133 VDD_INT, 134 FLAG0, 135 FLAG1, 136 FLAG2, 137 GND, 138 FLAG3, 139 GND, 140 GND, 141 VDD_EXT, 142 GND, 143 VDD_INT, 144 ~{TRST}, 145 GND, 146 ~{EMU}, 151 TDO, 153 VDD_EXT, 156 VDD_INT, 158 TDI, 160 VDD_EXT, 164 TCK, 169 VDD_INT, 173 ~{RESET}, 174 TMS, 176 VDD_INT, 177 EP
part B pins: 1 SDDQM, 2 ~{MS0}, 3 SDCKE, 6 ADDR0, 9 ADDR1, 10 ADDR2, 11 ADDR3, 12 ADDR4, 13 ADDR5, 16 ADDR6, 17 ADDR7, 20 ADDR8, 21 ADDR9, 26 ADDR10, 27 SDA10, 30 ADDR11, 31 ADDR12, 32 ADDR17, 33 ADDR13, 35 ADDR18, 108 AMI_ACK, 115 ~{MS1}, 120 ADDR23, 121 ADDR22, 122 ADDR21, 124 ADDR20, 125 ADDR19, 127 ADDR16, 128 ADDR15, 130 ADDR14, 131 ~{AMI_WR}, 132 ~{AMI_RD}, 147 DATA0, 148 DATA1, 149 DATA2, 150 DATA3, 152 DATA4, 154 DATA5, 155 DATA6, 157 DATA7, 159 SDCLK, 161 DATA8, 162 DATA9, 163 DATA10, 165 DATA11, 166 DATA12, 167 DATA14, 168 DATA13, 170 DATA15, 171 ~{SDWE}, 172 ~{SDRAS}, 175 ~{SDCAS}

## ADT7410
designator *
SENSOR TEMPERATURE I2C 8SOIC; Manufacturer#: ADT7410TRZ; Manufacturer: Analog Devices
pins: 1 SCL (in), 2 SDA (out), 3 A0 (in), 4 A1 (in), 5 INT (out), 6 CT (out), 7 GND (power), 8 VDD (power)

## ADUM1401
designator U?
ADUM1401; Manufacturer: Analog Devices
footprint SO-G16/G6.9
pins: 1 VDD1 (power), 2 GND1 (power), 3 VIA (in), 4 VIB (in), 5 VIC (in), 6 VOD (out), 7 VE1 (in), 8 GND1 (power), 9 GND2 (power), 10 VE2 (in), 11 VID (in), 12 VOC (out), 13 VOB (out), 14 VOA (out), 15 GND2 (power), 16 VDD2 (power)

## ADUM2250
designator U?
ADUM2250 I2C Bus Digital Isolator; Manufacturer: Analog Devices
footprint SO-G16/G6.9
pins: 1 GND1 (power), 2 NC, 3 VDD1 (power), 4 NC, 5 SDA1 (io), 6 SCL1 (io), 7 GND1 (power), 8 NC, 9 GND2 (power), 10 NC, 11 SCL2 (io), 12 SDA2 (io), 13 NC, 14 VDD2 (power), 15 NC, 16 GND2 (power)

## ADUM2400
designator U?
ADUM2400 Digital Isolator; Manufacturer: Analog Devices
footprint SO-G16/G6.9
pins: 1 VDD1 (power), 2 GND1 (power), 3 VIA (in), 4 VIB (in), 5 VIC (in), 6 VID (in), 7 NC, 8 GND1 (power), 9 GND2 (power), 10 VE2 (in), 11 VOD (out), 12 VOC (out), 13 VOB (out), 14 VOA (out), 15 GND2 (power), 16 VDD2 (power)

## ADUM2401
designator U?
ADUM2401 Digital Isolator by-directional; Manufacturer: Analog Devices
footprint SO-G16/G6.9
pins: 1 VDD1 (power), 2 GND1 (power), 3 VIA (in), 4 VIB (in), 5 VIC (in), 6 VOD (out), 7 VE1 (in), 8 GND1 (power), 9 GND2 (power), 10 VE2 (in), 11 VID (in), 12 VOC (out), 13 VOB (out), 14 VOA (out), 15 GND2 (power), 16 VDD2 (power)

## ADUM2402
designator U?
ADUM2402 Digital Isolator by-directional; Manufacturer: Analog Devices
footprint SO-G16/G6.9
pins: 1 VDD1 (power), 2 GND1 (power), 3 VIA (in), 4 VIB (in), 5 VOC (out), 6 VOD (out), 7 VE1 (in), 8 GND1 (power), 9 GND2 (power), 10 VE2 (in), 11 VID (in), 12 VIC (in), 13 VOB (out), 14 VOA (out), 15 GND2 (power), 16 VDD2 (power)

## ADUM3200
designator U?
ADUM3200 Digital Isolator uni-directional; Manufacturer: Analog Devices
footprint SO-G8 (SOIC 8 pin 0.5mm pitch)
pins: 1 VDD1 (power), 2 VIA (in), 3 VIB (in), 4 GND1 (power), 5 GND2 (power), 6 VOB (out), 7 VOA (out), 8 VDD2 (power)

## ADUM4160
designator U?
ADUM4160 Digital Isolator by-directional; Manufacturer: Analog Devices
footprint SO-G16/G6.9
pins: 1 VBUS1 (power), 2 GND1 (power), 3 VDD1 (power), 4 PDEN (in), 5 SPU (in), 6 UD- (io), 7 UD+ (io), 8 GND1 (power), 9 GND2 (power), 10 DD+ (io), 11 DD- (io), 12 PIN (in), 13 SPD (in), 14 VDD2 (power), 15 GND2 (power), 16 VBUS2 (power)

## ADUM4402
designator U?
ADUM4402 Digital Isolator by-directional; Manufacturer: Analog Devices
footprint SO-G16/G6.9
pins: 1 VDD1 (power), 2 GND1 (power), 3 VIA (in), 4 VIB (in), 5 VOC (out), 6 VOD (out), 7 VE1 (in), 8 GND1 (power), 9 GND2 (power), 10 VE2 (in), 11 VID (in), 12 VIC (in), 13 VOB (out), 14 VOA (out), 15 GND2 (power), 16 VDD2 (power)

## ADUM6000ARWZ
designator U?
Manufacturer: Analog Devices; Value: ADUM6000ARWZ
footprint SO-G16/G6.9
pins: 1 VDD1 (power), 2 GND1 (power), 3 NC, 4 RCIN, 5 RCOUT, 6 RCSEL, 7 VDD1, 8 GND1, 9 GNDISO, 10 VISO, 11 NC, 12 NC, 13 VSEL, 14 NC, 15 GNDISO, 16 VISO

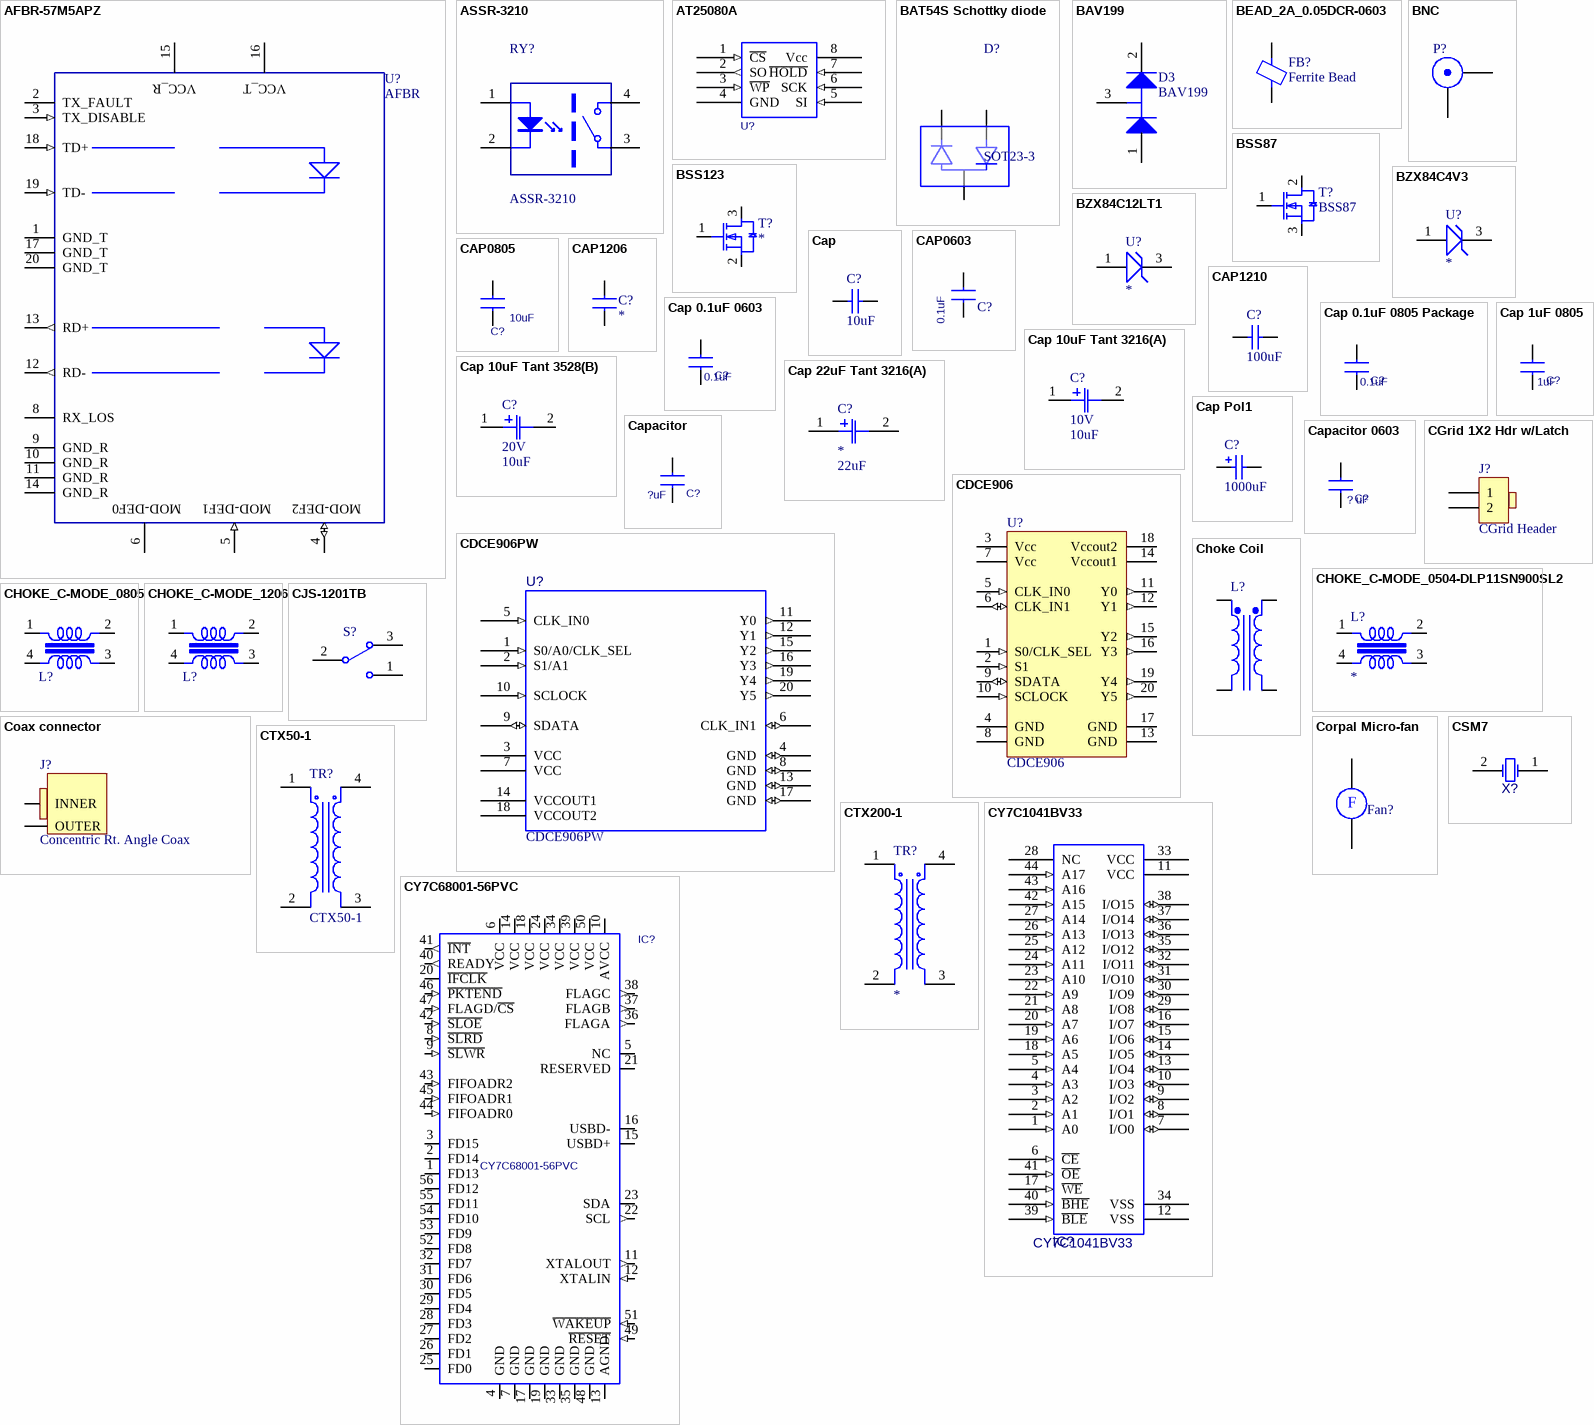
[diagram p5: symbols AFBR-57M5APZ to CY7C68001-56PVC]

## AFBR-57M5APZ
designator U?, comment AFBR
Ethernet Optical Transceiver; Manufacturer: Avago
pins: 1 GND_T (power), 2 TX_FAULT (oc), 3 TX_DISABLE (in), 4 MOD-DEF2 (io), 5 MOD-DEF1 (in), 6 MOD-DEF0, 7 NC (power) hidden to NC, 8 RX_LOS (oc), 9 GND_R (power), 10 GND_R (power), 11 GND_R (power), 12 RD- (out), 13 RD+ (out), 14 GND_R (power), 15 R_Vcc (power), 16 T_Vcc (power), 17 GND_T (power), 18 TD+ (in), 19 TD- (in), 20 GND_T (power)
text: VCC_R; VCC_T

## ASSR-3210
designator RY?
ASSR-3210 SPST Solid State Relay; Manufacturer: Avago; Revision: 10/2/2004
footprint SO-G8/E3.9 (Small Outline; 8 Leads; Body Width 3.9 mm; Pitch 1.27 mm; PCB Creepage 4.4 mm)
pins: 1 CATHODE 1, 2 CATHODE 2, 3 Vo 1, 4 Vo 2

## AT25080A
designator U?  (value not drawn)
1 kBit Serial EEPROM; Manufacturer: Atmel; Value: AT25080-10TI-2.7
footprint TSSO3X6-G8/X.3 (TSSOP 8 pin wde body.)
pins: 1 ~{CS} (in), 2 SO (out), 3 ~{WP} (in), 4 GND (power), 5 SI (in), 6 SCK (in), 7 ~{HOLD} (in), 8 Vcc (power)

## BAT54S Schottky diode
designator D?, comment SOT23-3
DIODE ARRAY SCHOTTKY 30V SOT323; Manufacturer#: BAT54SW-7-F; Manufacturer: Didoes Inc
footprint S0-G3 (SOT-23)
pins: 1 K1, 2 K2, 3 A

## BAV199
designator D3
Medium-speed Switching Double Diode with Low Leakage Current; Manufacturer: Diodes Inc
footprint S0-G3 (SOT-23)
simulation model BAV199 (SUBCKT)
signal-integrity model BAV199
pins: 1 A, 2 K (power), 3 C (power)

## BEAD_2A_0.05DCR-0603
designator FB?, comment Ferrite Bead
Ferrite Chip 100MHz @ 2A  220ohm impedance 50mOhm DC; Description: Ferrite Bead, 220 Ohm, 2A, 0.05DCR, 0603
footprint CC0603
pins: 1, 2

## BNC
designator P?
BNC Elbow Connector; Revision: 17-Jul-2002: Re-released for DXP Platform.
footprint BNC_RA CON (Connector; BNC Elbow)
signal-integrity model Connector
pins: 1 X, 2 Y

## BSS87
designator T?
BSS87 Nch. Trans. 240V 290mA SOT-89; Manufacturer: NXP Semiconductor
footprint SOT89
pins: 1 G, 2 S, 3 D

## BSS123
designator T?
BSS123 Nch. Trans 100V 170mA SOT-23; Manufacturer: Fairchild Semiconductor
footprint S0-G3
pins: 1 G, 2 S, 3 D

## BZX84C4V3
designator U?
BZX84C4V2; Manufacturer: Diodes Inc
footprint S0-G3
pins: 1 A, 3 K

## BZX84C12LT1
designator U?
BZX84C12LT1; Manufacturer: ON semiconductor
footprint SO-G3/Z3.3
pins: 1 A, 3 K

## Cap
designator C?  value 10uF  (hidden comment: Cap)
Capacitor
footprint RAD-0.3 (Radial Cap, Thru-Hole; 2 Leads; 0.3 in Pin Spacing)
simulation model CAP (Capacitor)
signal-integrity model Cap
pins: 1, 2

## CAP0603
designator C?  value 0.1uF  (hidden comment: CAP0603)
Description: Capacitor
footprint CC0603
pins: 1, 2

## CAP0805
designator C?  value 10uF  (hidden comment: CAP0805)
Description: Capacitor
footprint CC0805
pins: 1, 2

## CAP1206
designator C?
CAP1206
footprint CC1206
pins: 1, 2

## CAP1210
designator C?  value 100uF  (hidden comment: CAP1210)
CAP CER 100UF 10V, 20% X5R 1210
pins: 1, 2

## Cap 0.1uF 0603
designator C?, comment value 0.1uF  (hidden comment: 0.1uf Capacitor 0603 package)
Cap 0603 package; Voltage: 6.3V
footprint CC0603
pins: 1, 2

## Cap 0.1uF 0805 Package
designator C?, comment value 0.1uF  (hidden comment: 0.1uf Capacitor 0805 package)
Cap 0805 package any value; Voltage: 6.3V
footprint CC0805
pins: 1, 2

## Cap 1uF 0805
designator C?, comment value 1uF  (hidden comment: 1uf Capacitor 0805 package)
Cap 1uF 0803 package 10% 25V; Voltage: 25V
footprint CC0805
pins: 1, 2

## Cap 10uF Tant 3216(A)
designator C?, comment 10V  value 10uF
TANT. Capacitor 10uF 10V 3216(A)
footprint 3216 (A)
pins: 1 +, 2 -

## Cap 10uF Tant 3528(B)
designator C?, comment 20V  value 10uF
TANT. Capacitor 10uF 20V 3528(B)
footprint 3528B (Capacitor package)
pins: 1 +, 2 -

## Cap 22uF Tant 3216(A)
designator C?  value 22uF
TANT. Capacitor 22uF 10WVDC 3216(A) Package
footprint 3216 (A)
pins: 1 +, 2 -

## Cap Pol1
designator C?, comment value 1000uF  (hidden comment: 16V)
Polarized Capacitor (Radial); Revision: July-2002: Re-released for DXP Platform.
footprint RB7.6-15 (Polarized Capacitor (Radial); 2 Leads)
simulation model CAP (Capacitor)
signal-integrity model Cap Pol
footprint CAPPR1.5-4X5
footprint CAPPR1.27-1.96X4.06
footprint CAPPR2-5X6.8
footprint CAPPR5-5X5
footprint CAPPR7.5-16X35
pins: 1, 2

## Capacitor
designator C?  value ?uF  (hidden comment: Capacitor)
Cap 0805 package any value; Voltage: *
footprint CC0805
pins: 1, 2

## Capacitor 0603
designator C?, comment value ? uF  (hidden comment: Capacitor 0603 package)
Cap 0603 package any value; Voltage: ?
footprint CC0603
pins: 1, 2

## CDCE906
designator U?
Programmable 3-PLL Clock Synth/Mult/Div; Manufacturer: Texas Instruments; Value: *
footprint TSSO6x6-G20/P.65
pins: 1 S0/CLK_SEL (in), 2 S1 (in), 3 Vcc (power), 4 GND (power), 5 CLK_IN0 (in), 6 CLK_IN1 (io), 7 Vcc (power), 8 GND (power), 9 SDATA (io), 10 SCLOCK (in), 11 Y0 (out), 12 Y1 (out), 13 GND (power), 14 Vccout1 (power), 15 Y2 (out), 16 Y3 (out), 17 GND, 18 Vccout2 (power), 19 Y4 (out), 20 Y5 (out)

## CDCE906PW
designator U?
Programmable 3-PLL Clock Synthesizer - Multiplier - Divider; Manufacturer: Texas Instruments
footprint TSSO6x6-G20/P.65
pins: 1 S0/A0/CLK_SEL (in), 2 S1/A1 (in), 3 VCC (power), 4 GND (io), 5 CLK_IN0 (in), 6 CLK_IN1 (io), 7 VCC (power), 8 GND (io), 9 SDATA (io), 10 SCLOCK (in), 11 Y0 (out), 12 Y1 (out), 13 GND (io), 14 VCCOUT1 (power), 15 Y2 (out), 16 Y3 (out), 17 GND (io), 18 VCCOUT2 (power), 19 Y4 (out), 20 Y5 (out)

## CGrid 1X2 Hdr w/Latch
designator J?, comment CGrid Header
Header; Value: 1x2 CGrid with Latch; Revision: 17-Jul-2002: Re-released for DXP Platform.
signal-integrity model Connector
footprint 1X2 CGRID LATCH
pins: 1, 2

## Choke Coil
designator L?
Common Mode Choke Coil
footprint DLP31S (Common Mode Choke Coil)
pins: 1 Pri+, 2 Pri-, 3 Sec+, 4 Sec-

## CHOKE_C-MODE_0504-DLP11SN900SL2
designator L?
Inductor, Common Mode Choke, DLP11SN900SL2, 0504
footprint 0504 (0504 SMD EMI choke package)
pins: 1, 2, 3, 4

## CHOKE_C-MODE_0805
designator L?  (value not drawn)
USB choke 90ohm @100Mz
footprint 0805 - choke
pins: 1, 2, 3, 4

## CHOKE_C-MODE_1206
designator L?, comment Choke  (value not drawn)
Common Mode choke 550ohm @100Mz
footprint CommonModeChoke1206 (Four contact common mode choke pakage 1206 size)
pins: 1, 2, 3, 4

## CJS-1201TB
designator S?
SPDT
footprint TL36WW15050
pins: 1, 2, 3

## Coax connector
designator J?, comment Concentric Rt. Angle Coax
37381 Touchproof mini-coax connector
footprint COAX_TCHPRF
pins: 1 INNER, 2 OUTER

## Corpal Micro-fan
designator Fan?, comment Micro-fan  (value not drawn)
Corpal fan F17HA-05MC; Revision: July-2002: Re-released for DXP Platform.
footprint 1X2 CGRID LATCH
pins: 1, 2
text: F

## CSM7
designator X?  (value not drawn)
CRYSTAL 3.6864MHZ 20PF SMD; Manufacturer: RXD; Manufacturer#: ECS-36-20-5PDN; Description: Crystal Oscillator
footprint CSM7
pins: 1 OSC1, 2 OSC2

## CTX50-1
designator TR?
CTX50-1 Transformer 50uH SMD; Manufacturer#: CTX50-1P-R; Manufacturer: Eaton Bussmann
footprint CTX-1
pins: 1 Pri+, 2 Pri-, 3 Sec-, 4 Sec+

## CTX200-1
designator TR?
INDUCT ARRAY 2 COIL 198.41UH SMD; Manufacturer#: CTX200-1P-R; Manufacturer: Eaton Bussmann
footprint CTX-1
pins: 1 Pri+, 2 Pri-, 3 Sec-, 4 Sec+

## CY7C1041BV33
designator IC?
256K x 16 Static RAM; Manufacturer: Cypress Semiconductors; Manufacturer#: CY7C1041BV3315ZCT
footprint TSOP-2-G44
pins: 1 A0 (in), 2 A1 (in), 3 A2 (in), 4 A3 (in), 5 A4 (in), 6 ~{CE} (in), 7 I/O0 (io), 8 I/O1 (io), 9 I/O2 (io), 10 I/O3 (io), 11 VCC (power), 12 VSS (power), 13 I/O4 (io), 14 I/O5 (io), 15 I/O6 (io), 16 I/O7 (io), 17 ~{WE} (in), 18 A5 (in), 19 A6 (in), 20 A7 (in), 21 A8 (in), 22 A9 (in), 23 A10 (in), 24 A11 (in), 25 A12 (in), 26 A13 (in), 27 A14 (in), 28 NC, 29 I/O8 (io), 30 I/O9 (io), 31 I/O10 (io), 32 I/O11 (io), 33 VCC (power), 34 VSS (power), 35 I/O12 (io), 36 I/O13 (io), 37 I/O14 (io), 38 I/O15 (io), 39 ~{BLE} (in), 40 ~{BHE} (in), 41 ~{OE} (in), 42 A15 (in), 43 A16 (in), 44 A17 (in)

## CY7C68001-56PVC
designator IC?
IC USB INTERFACE SX2 56-SSOP; Manufacturer: Cypress Semiconductors; Manufacturer#: CY7C68001-56PVC
footprint SSO-G56
pins: 1 FD13 (io), 2 FD14 (io), 3 FD15 (io), 4 GND (power), 5 NC, 6 VCC (power), 7 GND (power), 8 ~{SLRD} (in), 9 ~{SLWR} (in), 10 AVCC (power), 11 XTALOUT (out), 12 XTALIN (in), 13 AGND (power), 14 VCC (power), 15 USBD+ (io), 16 USBD- (io), 17 GND (power), 18 VCC (power), 19 GND (power), 20 ~{IFCLK} (io), 21 RESERVED, 22 SCL (out), 23 SDA (io), 24 VCC (power), 25 FD0 (io), 26 FD1 (io), 27 FD2 (io), 28 FD3 (io), 29 FD4 (io), 30 FD5 (io), 31 FD6 (io), 32 FD7 (io), 33 GND (power), 34 VCC (power), 35 GND (power), 36 FLAGA (out), 37 FLAGB (out), 38 FLAGC (out), 39 VCC (power), 40 READY (out), 41 ~{INT} (out), 42 ~{SLOE} (in), 43 FIFOADR2 (in), 44 FIFOADR0 (in), 45 FIFOADR1 (in), 46 ~{PKTEND} (in), 47 FLAGD/~{CS} (in), 48 GND (power), 49 ~{RESET} (in), 50 VCC (power), 51 ~{WAKEUP} (in), 52 FD8 (io), 53 FD9 (io), 54 FD10 (io), 55 FD11 (io), 56 FD12 (io)

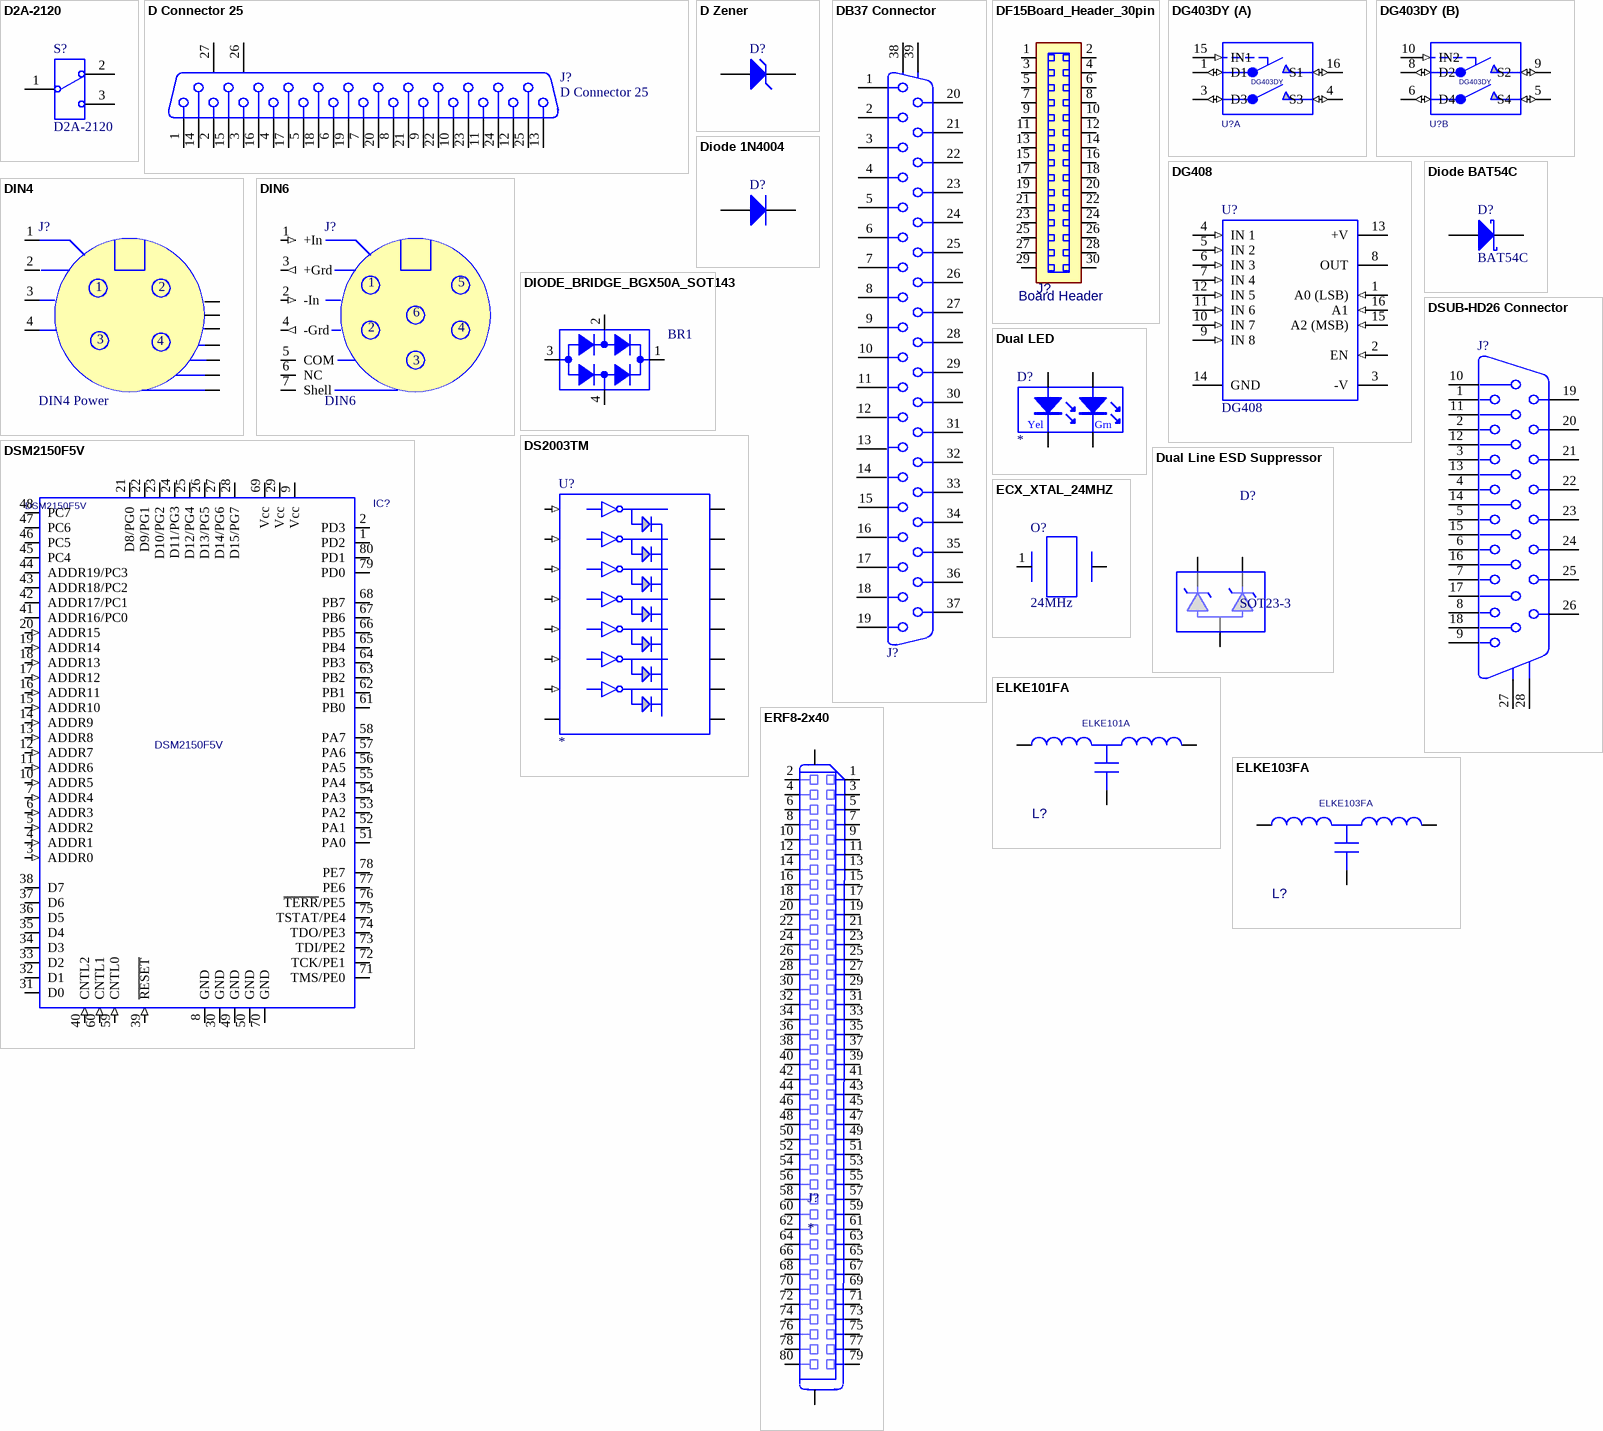
[diagram p6: symbols D2A-2120 to ERF8-2x40]

## D2A-2120
designator S?
SPDT Rt. Angle plunger switch 3mm plunger travel; Manufacturer: Omron Electronics
footprint Omron Plunger Switch
pins: 1, 2, 3

## D Connector 25
designator J?
Receptacle Assembly, 25 Position, Right Angle
footprint DSUB1.385-2H25A (Connector; D Subminiature; 25 Position; Right Angle; Pitch 1.385 mm)
signal-integrity model Connector
pins: 1, 2, 3, 4, 5, 6, 7, 8, 9, 10, 11, 12, 13, 14, 15, 16, 17, 18, 19, 20, 21, 22, 23, 24, 25, 26 MH1, 27 MH2

## D Zener
designator D?
Zener Diode; Revision: July-2002: Re-released for DXP Platform.
footprint DIODE-0.7 (Zener Diode; 2 Leads)
simulation model ZENER (Diode)
signal-integrity model D Zener
pins: 1 A, 2 K

## DB37 Connector
designator J?
Receptacle Header Assemby; Revision: 17-Jul-2002: Re-released for DXP Platform.
footprint CHAMP1.27-2H36 (Connector; 36 Position; Right Angle; Pitch 1.27 mm)
signal-integrity model Connector
pins: 1, 2, 3, 4, 5, 6, 7, 8, 9, 10, 11, 12, 13, 14, 15, 16, 17, 18, 19, 20, 21, 22, 23, 24, 25, 26, 27, 28, 29, 30, 31, 32, 33, 34, 35, 36, 37, 38, 39

## DF15Board_Header_30pin
designator J?, comment value Board Header  (hidden comment: 30pin DF15 Board Header)
DF15 series Board Header 30pin; Description: 2x13 Pin Header for IDC Connectors
footprint 30pinDF15_header (DF15 series SMT 30pin header)
pins: 1, 2, 3, 4, 5, 6, 7, 8, 9, 10, 11, 12, 13, 14, 15, 16, 17, 18, 19, 20, 21, 22, 23, 24, 25, 26, 27, 28, 29, 30

## DG403DY
designator U?
IC SWITCH DUAL SPST 16SOIC; Manufacturer#: DG403DY-T1-E3; Manufacturer: Vishay
footprint TSSO5X6-G16
pins on every part: 11 V+ (power) hidden to A15V, 12 VL (power) hidden to A+5V, 13 GND (power) hidden to GND, 14 V- (power) hidden to A-15V
part A pins: 1 D1 (io), 2 NC hidden, 3 D3 (io), 4 S3 (io), 7 NC hidden, 15 IN1 (in), 16 S1 (io)
part B pins: 5 S4 (io), 6 D4 (io), 8 D2 (io), 9 S2 (io), 10 IN2 (in)

## DG408
designator U?
Single-Ended 8-Channel CMOS Analog Multiplexers; Manufacturer#: DG408DY-T1-E3; Manufacturer: Vishay; Revision: 17-Jul-2002: Re-released for DXP Platform.
footprint SO-G16/C5.2 (SOIC 16 pin 5.2mm)
pins: 1 A0 (LSB) (in), 2 EN (in), 3 -V (power), 4 IN 1 (in), 5 IN 2 (in), 6 IN 3 (in), 7 IN 4 (in), 8 OUT (hiz), 9 IN 8 (in), 10 IN 7 (in), 11 IN 6 (in), 12 IN 5 (in), 13 +V (power), 14 GND (power), 15 A2 (MSB) (in), 16 A1 (in)

## DIN4
designator J?, comment DIN4 Power
4 Pin DIN plug Right Angle PCB mount; Value: Panel Mount
footprint DIN4 (Power DIN 4)
pins: 1 (power), 2 (power), 3 (power), 4 (power), SHLD1 SHLD, SHLD2 SHLD, SHLD3 SHLD, SHLD4 SHLD, SHLD5 SHLD, SHLD6 SHLD, SHLD7 SHLD

## DIN6
designator J?
6 Pin DIN plug Right Angle PCB mount; Value: Panel Mount
footprint 6DIN PCB Mount
footprint SDS-60J (Right Angle PCB mount DIN6)
footprint SDS-60J Alternate (Right Angle DIN PCM mount without screw mount holes)
pins: 1 +In (in), 2 -In (in), 3 +Grd (out), 4 -Grd (out), 5 COM, 6 NC, 7 Shell

## Diode 1N4004
designator D?
1 Amp General Purpose Rectifier
footprint DIO10.46-5.3x2.8 (Diode, Axial; Body 5.2 x 2.7 mm (LxDia. max), Lead Dia. 0.86 mm (max))
simulation model 1N4004 (DIODE)
signal-integrity model 1N4004
pins: 1 A, 2 K

## Diode BAT54C
designator D?, comment BAT54C
BAT54C Schottky 30V 200mA SOT-23
footprint S0-G3 (SOT-23)
pins: 1 K, 3 A

## DIODE_BRIDGE_BGX50A_SOT143
designator BR1, comment Diode Bridge  (value not drawn)
Diode, Bridge, Switching, 50V, 140mA, SOT-143
footprint SOT143
pins: 1, 2, 3, 4

## DS2003TM
designator U?
DS2003TM Darlington drivers
footprint SO-G16/C5.2 (SOIC 16 pin 5.2mm)
pins: 1 INA (in), 2 INB (in), 3 INC (in), 4 IND (in), 5 INE (in), 6 INF (in), 7 ING (in), 8 GND (power), 9 COMMON (power), 10 OUTG (oe), 11 OUTF (oe), 12 OUTE (oe), 13 OUTD (oe), 14 OUTC (oe), 15 OUTB (oe), 16 OUTA (oe)

## DSM2150F5V
designator IC?
Value: DSM2150F5V
footprint F-QFP12X12-G80/N
pins: 1 PD2 (io), 2 PD3 (io), 3 ADDR0 (in), 4 ADDR1 (in), 5 ADDR2 (in), 6 ADDR3 (in), 7 ADDR4 (in), 8 GND (power), 9 Vcc (power), 10 ADDR5 (in), 11 ADDR6 (in), 12 ADDR7 (in), 13 ADDR8 (in), 14 ADDR9 (in), 15 ADDR10 (in), 16 ADDR11 (in), 17 ADDR12 (in), 18 ADDR13 (in), 19 ADDR14 (in), 20 ADDR15 (in), 21 D8/PG0 (io), 22 D9/PG1 (io), 23 D10/PG2 (io), 24 D11/PG3 (io), 25 D12/PG4 (io), 26 D13/PG5 (io), 27 D14/PG6 (io), 28 D15/PG7 (io), 29 Vcc (power), 30 GND (power), 31 D0 (io), 32 D1 (io), 33 D2 (io), 34 D3 (io), 35 D4 (io), 36 D5 (io), 37 D6 (io), 38 D7 (io), 39 ~{RESET} (in), 40 CNTL2 (in), 41 ADDR16/PC0 (io), 42 ADDR17/PC1 (io), 43 ADDR18/PC2 (io), 44 ADDR19/PC3 (io), 45 PC4 (io), 46 PC5 (io), 47 PC6 (io), 48 PC7 (io), 49 GND (power), 50 GND (power), 51 PA0 (io), 52 PA1 (io), 53 PA2 (io), 54 PA3 (io), 55 PA4 (io), 56 PA5 (io), 57 PA6 (io), 58 PA7 (io), 59 CNTL0 (in), 60 CNTL1 (in), 61 PB0 (io), 62 PB1 (io), 63 PB2 (io), 64 PB3 (io), 65 PB4 (io), 66 PB5 (io), 67 PB6 (io), 68 PB7 (io), 69 Vcc (power), 70 GND (power), 71 TMS/PE0 (io), 72 TCK/PE1 (io), 73 TDI/PE2 (io), 74 TDO/PE3 (io), 75 TSTAT/PE4 (io), 76 ~{TERR}/PE5 (io), 77 PE6 (io), 78 PE7 (io), 79 PD0 (io), 80 PD1 (io)

## DSUB-HD26 Connector
designator J?
Receptacle Header Assemby; Revision: 17-Jul-2002: Re-released for DXP Platform.
footprint CHAMP1.27-2H26 (Connector; 26 Position; Right Angle; Pitch 1.27 mm)
signal-integrity model Connector
pins: 1, 2, 3, 4, 5, 6, 7, 8, 9, 10, 11, 12, 13, 14, 15, 16, 17, 18, 19, 20, 21, 22, 23, 24, 25, 26, 27, 28

## Dual LED
designator D?
Dual LED Yel/Grn
footprint 1210
pins: 1 hidden to 1, 2 hidden to 2, 3 hidden to 3, 4 hidden to 4
text: Yel; Grn

## Dual Line ESD Suppressor
designator D?, comment SOT23-3
Dual Line ESD Suppressor
footprint S0-G3 (SOT-23)
pins: 1 K1, 2 K2, 3 A

## ECX_XTAL_24MHZ
designator O?, comment 24MHz
24MHz crystal; Description: Crystal, 24.000MHz, 50ppm, 18pF, HC-49SMT
footprint ECX-32 (Crystal)
pins: 1 X1, 2 X2 hidden, 3 X3, 4 X4 hidden

## ELKE101FA
designator L?  value ELKE101A  (hidden comment: ELKE101FA)
EMI Filter; Manufacturer: Panasonic
footprint ELKE
pins: 1 IN, 2 OUT, 3 GND

## ELKE103FA
designator L?
EMI Filter; Manufacturer: Panasonic; Value: ELKE103FA
footprint ELKE
pins: 1 IN, 2 OUT, 3 GND

## ERF8-2x40
designator J?
MicroBackplane high density male header; Manufacturer: Samtec; Manufacturer#: ERF8-2x40
pins: 1, 2, 3, 4, 5, 6, 7, 8, 9, 10, 11, 12, 13, 14, 15, 16, 17, 18, 19, 20, 21, 22, 23, 24, 25, 26, 27, 28, 29, 30, 31, 32, 33, 34, 35, 36, 37, 38, 39, 40, 41, 42, 43, 44, 45, 46, 47, 48, 49, 50, 51, 52, 53, 54, 55, 56, 57, 58, 59, 60, 61, 62, 63, 64, 65, 66, 67, 68, 69, 70, 71, 72, 73, 74, 75, 76, 77, 78, 79, 80, 81 hidden, 82 hidden, 83, 84

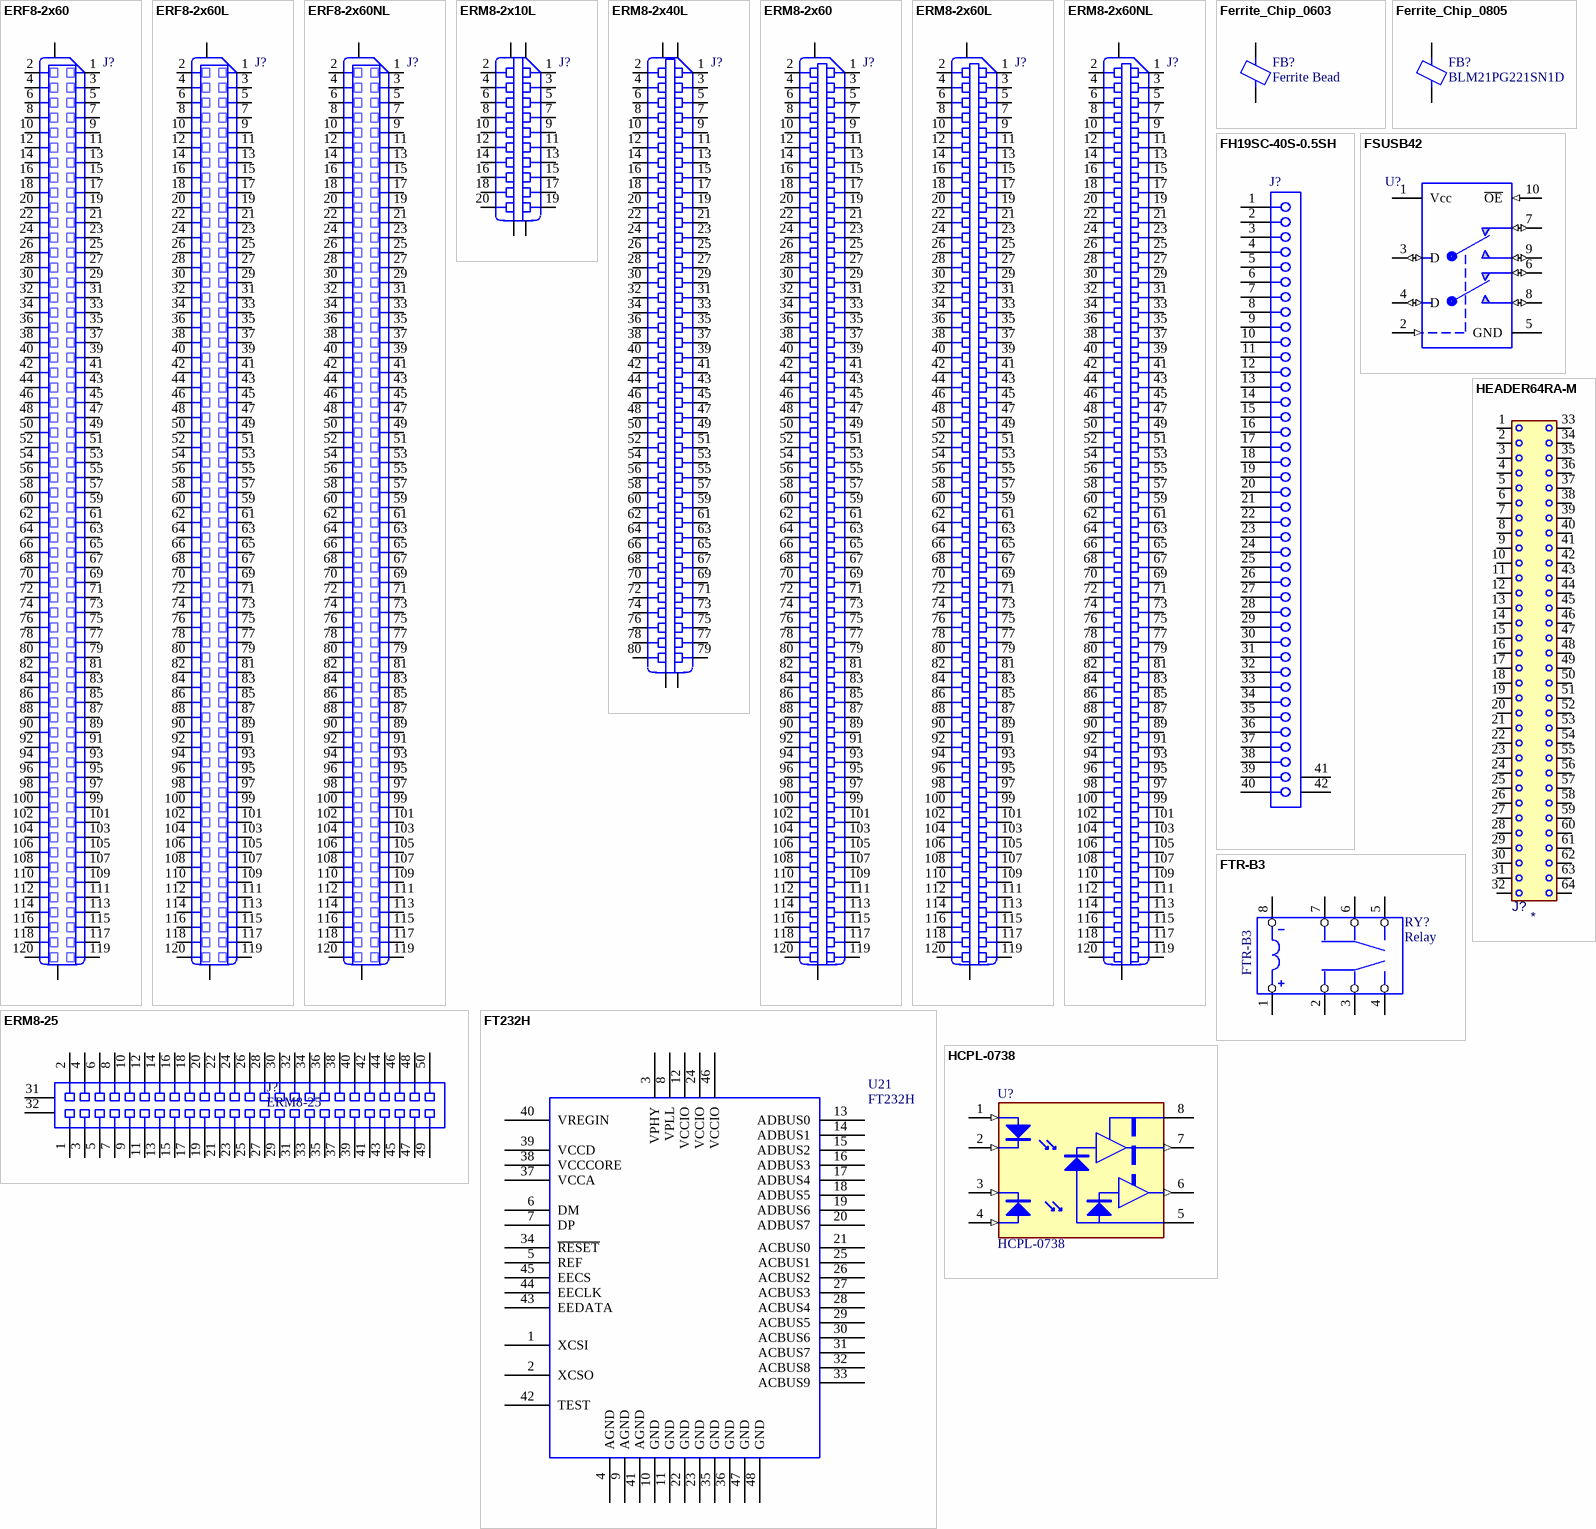
[diagram p7: symbols ERF8-2x60 to HEADER64RA-M]

## ERF8-2x60
designator J?, comment Vertical Female 2x60 header  (value not drawn)
MicroBackplane high density male header; Manufacturer: Samtec; Manufacturer#: ERF8-2x60
footprint ERF8-2x60
pins: 1, 2, 3, 4, 5, 6, 7, 8, 9, 10, 11, 12, 13, 14, 15, 16, 17, 18, 19, 20, 21, 22, 23, 24, 25, 26, 27, 28, 29, 30, 31, 32, 33, 34, 35, 36, 37, 38, 39, 40, 41, 42, 43, 44, 45, 46, 47, 48, 49, 50, 51, 52, 53, 54, 55, 56, 57, 58, 59, 60, 61, 62, 63, 64, 65, 66, 67, 68, 69, 70, 71, 72, 73, 74, 75, 76, 77, 78, 79, 80, 81, 82, 83, 84, 85, 86, 87, 88, 89, 90, 91, 92, 93, 94, 95, 96, 97, 98, 99, 100, 101, 102, 103, 104, 105, 106, 107, 108, 109, 110, 111, 112, 113, 114, 115, 116, 117, 118, 119, 120, 120 121, 121

## ERF8-2x60L
designator J?, comment Vertical Female 2x60 header  (value not drawn)
MicroBackplane high density female connector (latching); Manufacturer: Samtec; Manufacturer#: ERF8-2x60L
footprint ERF8-2x60
pins: 1, 2, 3, 4, 5, 6, 7, 8, 9, 10, 11, 12, 13, 14, 15, 16, 17, 18, 19, 20, 21, 22, 23, 24, 25, 26, 27, 28, 29, 30, 31, 32, 33, 34, 35, 36, 37, 38, 39, 40, 41, 42, 43, 44, 45, 46, 47, 48, 49, 50, 51, 52, 53, 54, 55, 56, 57, 58, 59, 60, 61, 62, 63, 64, 65, 66, 67, 68, 69, 70, 71, 72, 73, 74, 75, 76, 77, 78, 79, 80, 81, 82, 83, 84, 85, 86, 87, 88, 89, 90, 91, 92, 93, 94, 95, 96, 97, 98, 99, 100, 101, 102, 103, 104, 105, 106, 107, 108, 109, 110, 111, 112, 113, 114, 115, 116, 117, 118, 119, 120, 120 121, 121

## ERF8-2x60NL
designator J?, comment Vertical Female 2x60 header  (value not drawn)
MicroBackplane high density female connector (Non-latching); Manufacturer: Samtec; Manufacturer#: ERF8-2x60NL
footprint ERF8-2x60
pins: 1, 2, 3, 4, 5, 6, 7, 8, 9, 10, 11, 12, 13, 14, 15, 16, 17, 18, 19, 20, 21, 22, 23, 24, 25, 26, 27, 28, 29, 30, 31, 32, 33, 34, 35, 36, 37, 38, 39, 40, 41, 42, 43, 44, 45, 46, 47, 48, 49, 50, 51, 52, 53, 54, 55, 56, 57, 58, 59, 60, 61, 62, 63, 64, 65, 66, 67, 68, 69, 70, 71, 72, 73, 74, 75, 76, 77, 78, 79, 80, 81, 82, 83, 84, 85, 86, 87, 88, 89, 90, 91, 92, 93, 94, 95, 96, 97, 98, 99, 100, 101, 102, 103, 104, 105, 106, 107, 108, 109, 110, 111, 112, 113, 114, 115, 116, 117, 118, 119, 120, 120 121, 121

## ERM8-2x10L
designator J?, comment 2x10 header  (value not drawn)
MicroBackplane high density male header (Latching); Manufacturer: Samtec; Manufacturer#: ERM8-2x10L
pins: 1, 2, 3, 4, 5, 6, 7, 8, 9, 10, 11, 12, 13, 14, 15, 16, 17, 18, 19, 20, 81, 82, 83, 84